# Altium schematic symbol library 常用集成电路.SchLib: 294 symbols (part 4 of 5)
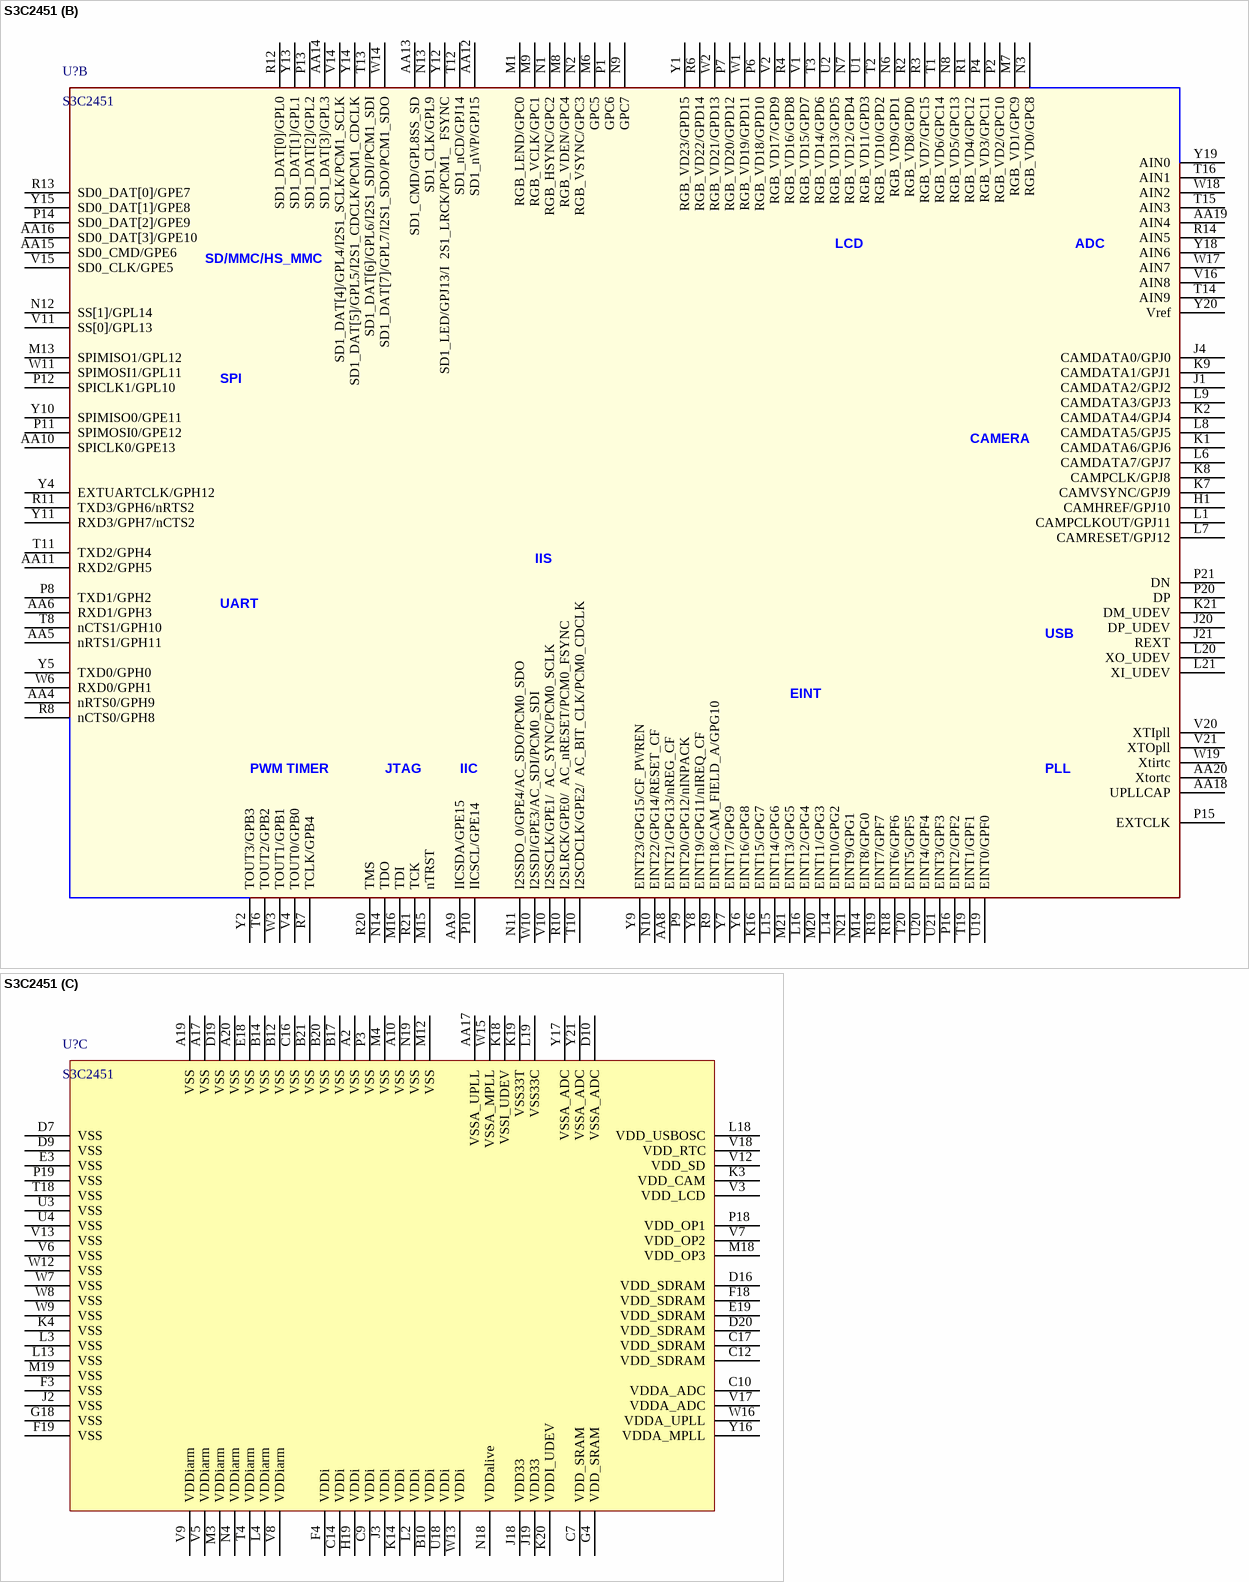
[diagram p41: symbol S3C2451]

## S3C2451
designator U?
footprint BGA65P14X14-380 (BGA, 380-Leads, Body 14.0x14.0mm,  Pitch 0.65mm)
part A pins: A3 nRBE0, A4 RADDR6, A5 RADDR7, A6 RADDR10, A7 RADDR16/GPA1, A8 RADDR22/GPA7, A9 nOE_CF/GPA11, A11 SADDR9, A12 SADDR7, A13 SADDR3, A14 SCKE, A15 nSWE, A16 DQM2/GPA25, A18 SDATA0, AA2 nXBACK/GPB5, AA3 nXDACK0/I2SSDO_1/GPB9, AA7 CLKOUT1/GPH14, B1 RSMCLK/GPA23, B2 FCLE/GPA17, B3 nRCS1/GPA12, B4 RADDR0/GPA0, B5 RADDR3, B6 RADDR9, B7 RADDR14, B8 RADDR20/GPA5, B9 RADDR24/GPA9, B11 SADDR10, B13 nSCAS, B15 nSCS[1], B16 DQS1, B18 SDATA7, B19 SDATA4, C1 nWAIT, C2 RDATA13, C3 nRCS3/GPA14, C4 nRCS0, C5 RADDR2, C6 RADDR8, C8 RADDR18/GPA3, C11 SADDR15, C13 SADDR1, C15 DQM0, C18 SDATA2, C19 SDATA8, C20 SDATA14, C21 SDATA12, D1 nFRE/GPA20, D2 FALE/GPA18, D3 RSMBWAIT/GPM0, D4 nFCE/GPA22, D5 nRWE, D6 RADDR4, D8 RADDR12, D11 SADDR13, D12 SADDR4, D13 nSCLK, D14 SCLK, D15 DQS0, D17 SDATA6, D18 SDATA10, D21 SDATA18/GPK2, E1 FRnB/GPM1, E2 RDATA14, E4 nRCS4/GPA15, E20 SDATA16/GPK0, E21 SDATA20/GPK4, F1 RDATA8, F2 RDATA12, F6 nRCS2/GPA13, F7 nROE, F8 RADDR1, F9 RADDR15, F10 nWE_CF/GPA27, F11 SADDR11, F12 SADDR5, F13 nSCS[0], F14 SDATA3, F15 SDATA9, F16 SDATA11, F20 SDATA22/GPK6, F21 SDATA24/GPK8, G1 RDATA2, G2 RDATA4, G3 RDATA10, G6 nRCS5/GPA16, G7 RSMVAD/GPA24, G8 nRBE1, G9 RADDR13, G10 RADDR23/GPA8, G11 SADDR14, G12 SADDR2, G13 DQM1, G14 SDATA5, G15 SDATA13, G16 SDATA15, G19 SDATA21/GPK5, G20 SDATA26/GPK10, G21 SDATA28/GPK12, H2 RDATA0, H3 RDATA3, H4 RDATA6, H6 RDATA15, H7 nFWE/GPA19, H8 RADDR5, H9 RADDR11, H10 RADDR19/GPA4, H11 RADDR25/RDATA_OEN/GPA10, H12 SADDR8, H13 nSRAS, H14 SDATA1, H15 SDATA17/GPK1, H16 SDATA19/GPK3, H18 SDATA23/GPK7, H20 SDATA29/GPK13, H21 SDATA30/GPK14, J6 RDATA9, J7 RDATA11, J8 RDATA7, J9 RDATA5, J10 RADDR17/GPA2, J11 RADDR21/GPA6, J12 SADDR12, J13 SADDR0, J14 DQM3/GPA26, J15 SDATA25/GPK9, J16 SDATA27/GPK11, K6 RDATA1, K13 SADDR6, K15 SDATA31/GPK15, N15 PWR_EN, N16 NRESET, N20 nRSTOUT, R15 OM[3], R16 OM[1], T7 nXBREQ/RTCK/GPB6, T9 CLKOUT0/GPH13, T21 BATT_FLT, V19 OM[4], W4 nXDREQ1/I2CSCL1/GPB8, W5 nXDREQ0/I2SSDO_2/GPB10, W20 OM[2], W21 OM[0], Y3 nXDACK1/I2CSDA1/GPB7
part B pins: AA4 nRTS0/GPH9, AA5 nRTS1/GPH11, AA6 RXD1/GPH3, AA8 EINT21/GPG13/nREG_CF, AA9 IICSDA/GPE15, AA10 SPICLK0/GPE13, AA11 RXD2/GPH5, AA12 SD1_nWP/GPJ15, AA13 SD1_CMD/GPL8SS_SD, AA14 SD1_DAT[3]/GPL3, AA15 SD0_CMD/GPE6, AA16 SD0_DAT[3]/GPE10, AA18 UPLLCAP, AA19 AIN4, AA20 Xtortc, H1 CAMHREF/GPJ10, J1 CAMDATA2/GPJ2, J4 CAMDATA0/GPJ0, J20 DP_UDEV, J21 REXT, K1 CAMDATA6/GPJ6, K2 CAMDATA4/GPJ4, K7 CAMVSYNC/GPJ9, K8 CAMPCLK/GPJ8, K9 CAMDATA1/GPJ1, K16 EINT15/GPG7, K21 DM_UDEV, L1 CAMPCLKOUT/GPJ11, L6 CAMDATA7/GPJ7, L7 CAMRESET/GPJ12, L8 CAMDATA5/GPJ5, L9 CAMDATA3/GPJ3, L14 EINT10/GPG2, L15 EINT14/GPG6, L16 EINT12/GPG4, L20 XO_UDEV, L21 XI_UDEV, M1 RGB_LEND/GPC0, M6 GPC5, M7 RGB_VD1/GPC9, M8 RGB_VDEN/GPC4, M9 RGB_VCLK/GPC1, M13 SPIMISO1/GPL12, M14 EINT8/GPG0, M15 nTRST, M16 TDI, M20 EINT11/GPG3, M21 EINT13/GPG5, N1 RGB_HSYNC/GPC2, N2 RGB_VSYNC/GPC3, N3 RGB_VD0/GPC8, N6 RGB_VD9/GPD1, N7 RGB_VD12/GPD4, N8 RGB_VD5/GPC13, N9 GPC7, N10 EINT22/GPG14/RESET_CF, N11 I2SSDO_0/GPE4/AC_SDO/PCM0_SDO, N12 SS[1]/GPL14, N13 SD1_CLK/GPL9, N14 TDO, N21 EINT9/GPG1, P1 GPC6, P2 RGB_VD2/GPC10, P4 RGB_VD3/GPC11, P6 RGB_VD18/GPD10, P7 RGB_VD20/GPD12, P8 TXD1/GPH2, P9 EINT20/GPG12/nINPACK, P10 IICSCL/GPE14, P11 SPIMOSI0/GPE12, P12 SPICLK1/GPL10, P13 SD1_DAT[2]/GPL2, P14 SD0_DAT[2]/GPE9, P15 EXTCLK, P16 EINT2/GPF2, P20 DP, P21 DN, R1 RGB_VD4/GPC12, R2 RGB_VD8/GPD0, R3 RGB_VD7/GPC15, R4 RGB_VD16/GPD8, R6 RGB_VD22/GPD14, R7 TCLK/GPB4, R8 nCTS0/GPH8, R9 EINT18/CAM_FIELD_A/GPG10, R10 I2SLRCK/GPE0/  AC_nRESET/PCM0_FSYNC, R11 TXD3/GPH6/nRTS2, R12 SD1_DAT[0]/GPL0, R13 SD0_DAT[0]/GPE7, R14 AIN5, R18 EINT6/GPF6, R19 EINT7/GPF7, R20 TMS, R21 TCK, T1 RGB_VD6/GPC14, T2 RGB_VD10/GPD2, T3 RGB_VD14/GPD6, T6 TOUT2/GPB2, T8 nCTS1/GPH10, T10 I2SCDCLK/GPE2/  AC_BIT_CLK/PCM0_CDCLK, T11 TXD2/GPH4, T12 SD1_nCD/GPJ14, T13 SD1_DAT[6]/GPL6/I2S1_SDI/PCM1_SDI, T14 AIN9, T15 AIN3, T16 AIN1, T19 EINT1/GPF1, T20 EINT5/GPF5, U1 RGB_VD11/GPD3, U2 RGB_VD13/GPD5, U19 EINT0/GPF0, U20 EINT4/GPF4, U21 EINT3/GPF3, V1 RGB_VD15/GPD7, V2 RGB_VD17/GPD9, V4 TOUT0/GPB0, V10 I2SSCLK/GPE1/  AC_SYNC/PCM0_SCLK, V11 SS[0]/GPL13, V14 SD1_DAT[4]/GPL4/I2S1_SCLK/PCM1_SCLK, V15 SD0_CLK/GPE5, V16 AIN8, V20 XTIpll, V21 XTOpll, W1 RGB_VD19/GPD11, W2 RGB_VD21/GPD13, W3 TOUT1/GPB1, W6 RXD0/GPH1, W10 I2SSDI/GPE3/AC_SDI/PCM0_SDI, W11 SPIMOSI1/GPL11, W14 SD1_DAT[7]/GPL7/I2S1_SDO/PCM1_SDO, W17 AIN7, W18 AIN2, W19 Xtirtc, Y1 RGB_VD23/GPD15, Y2 TOUT3/GPB3, Y4 EXTUARTCLK/GPH12, Y5 TXD0/GPH0, Y6 EINT16/GPG8, Y7 EINT17/GPG9, Y8 EINT19/GPG11/nIREQ_CF, Y9 EINT23/GPG15/CF_PWREN, Y10 SPIMISO0/GPE11, Y11 RXD3/GPH7/nCTS2, Y12 SD1_LED/GPJ13/I  2S1_LRCK/PCM1_  FSYNC, Y13 SD1_DAT[1]/GPL1, Y14 SD1_DAT[5]/GPL5/I2S1_CDCLK/PCM1_CDCLK, Y15 SD0_DAT[1]/GPE8, Y18 AIN6, Y19 AIN0, Y20 Vref
part C pins: A2 VSS, A10 VSS, A17 VSS, A19 VSS, A20 VSS, AA17 VSSA_UPLL, B10 VDDi, B12 VSS, B14 VSS, B17 VSS, B20 VSS, B21 VSS, C7 VDD_SRAM, C9 VDDi, C10 VDDA_ADC, C12 VDD_SDRAM, C14 VDDi, C16 VSS, C17 VDD_SDRAM, D7 VSS, D9 VSS, D10 VSSA_ADC, D16 VDD_SDRAM, D19 VSS, D20 VDD_SDRAM, E3 VSS, E18 VSS, E19 VDD_SDRAM, F3 VSS, F4 VDDi, F18 VDD_SDRAM, F19 VSS, G4 VDD_SRAM, G18 VSS, H19 VDDi, J2 VSS, J3 VDDi, J18 VDD33, J19 VDD33, K3 VDD_CAM, K4 VSS, K14 VDDi, K18 VSSI_UDEV, K19 VSS33T, K20 VDDI_UDEV, L2 VDDi, L3 VSS, L4 VDDiarm, L13 VSS, L18 VDD_USBOSC, L19 VSS33C, M3 VDDiarm, M4 VSS, M12 VSS, M18 VDD_OP3, M19 VSS, N4 VDDiarm, N18 VDDalive, N19 VSS, P3 VSS, P18 VDD_OP1, P19 VSS, T4 VDDiarm, T18 VSS, U3 VSS, U4 VSS, U18 VDDi, V3 VDD_LCD, V5 VDDiarm, V6 VSS, V7 VDD_OP2, V8 VDDiarm, V9 VDDiarm, V12 VDD_SD, V13 VSS, V17 VDDA_ADC, V18 VDD_RTC, W7 VSS, W8 VSS, W9 VSS, W12 VSS, W13 VDDi, W15 VSSA_MPLL, W16 VDDA_UPLL, Y16 VDDA_MPLL, Y17 VSSA_ADC, Y21 VSSA_ADC
part A text: EBI BUS (NOR, NAND, ONENAND, CF); DRAM BUS (mSDR, mDDR); SYSTEM; BUS CONTROL
part B text: LCD; ADC; SD/MMC/HS_MMC; SPI; CAMERA; IIS; UART; USB; EINT; PWM TIMER; JTAG; IIC; PLL

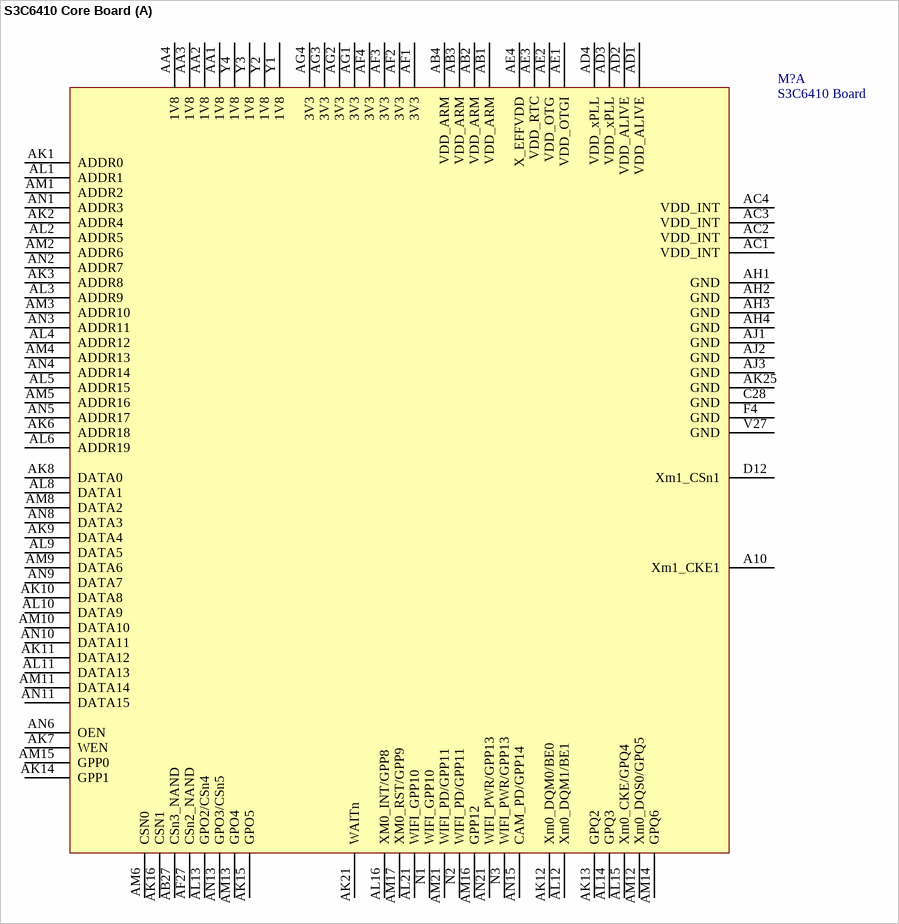
[diagram p25: symbol S3C6410 Core Board]

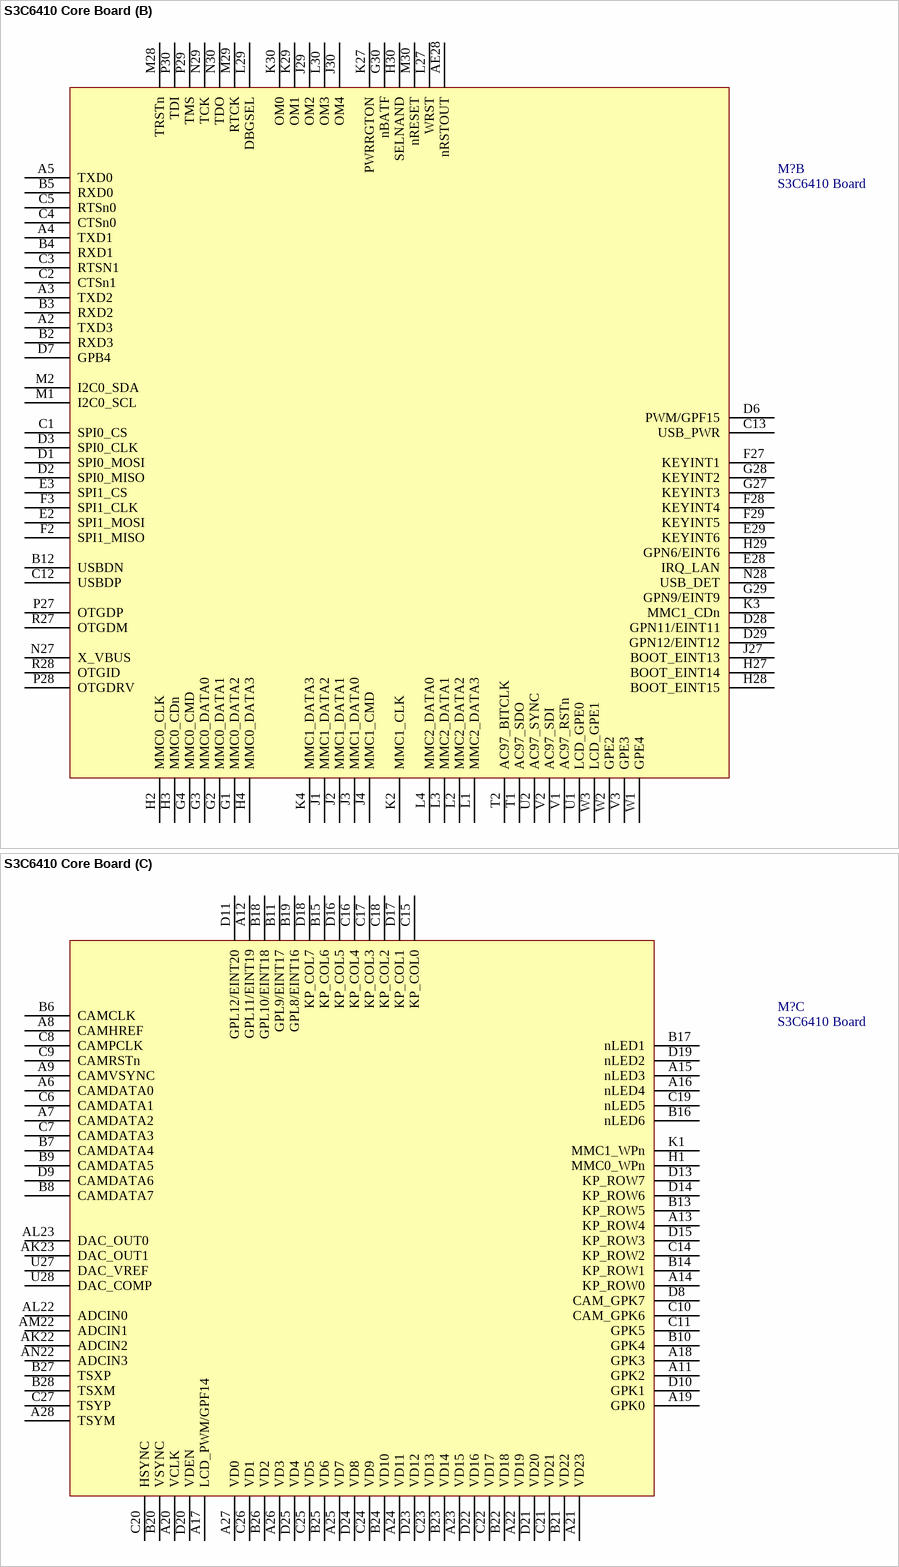
[diagram p26: symbol S3C6410 Core Board]

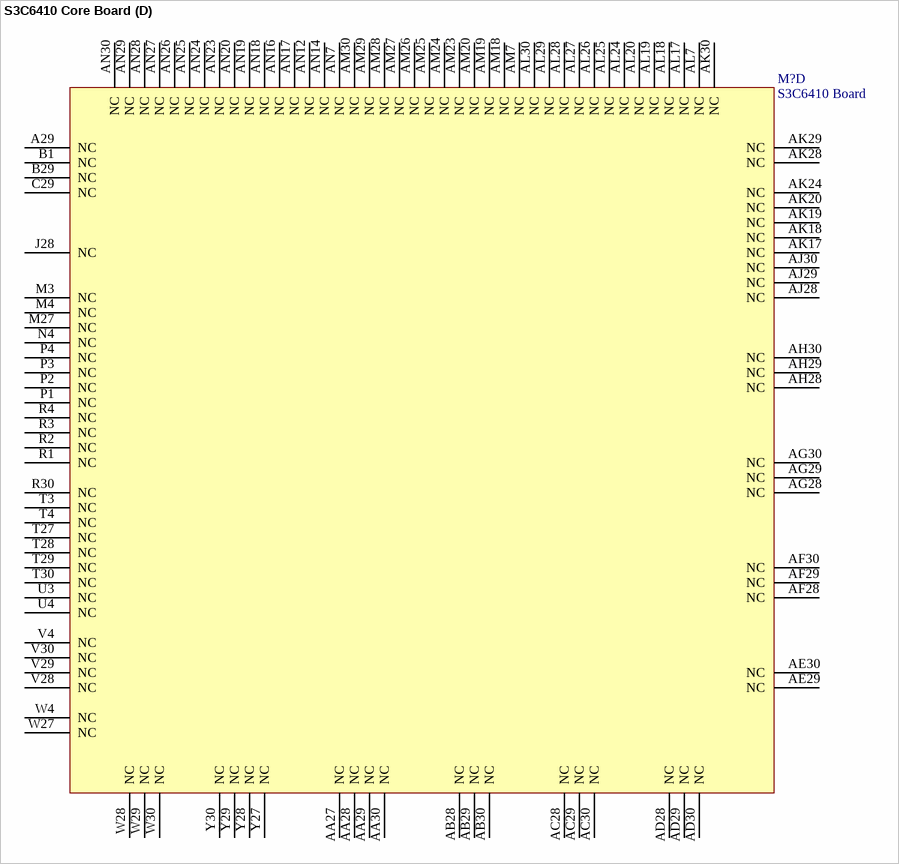
[diagram p27: symbol S3C6410 Core Board]

## S3C6410 Core Board
designator M?, comment S3C6410 Board
S3C6410核心板
footprint S3C6410核心板 (37.5x37.5mm S3C6410核心板 淘宝有售)
part A pins: A10 Xm1_CKE1, AA1 1V8, AA2 1V8, AA3 1V8, AA4 1V8, AB1 VDD_ARM, AB2 VDD_ARM, AB3 VDD_ARM, AB4 VDD_ARM, AB27 CSn3_NAND, AC1 VDD_INT, AC2 VDD_INT, AC3 VDD_INT, AC4 VDD_INT, AD1 VDD_ALIVE, AD2 VDD_ALIVE, AD3 VDD_xPLL, AD4 VDD_xPLL, AE1 VDD_OTGI, AE2 VDD_OTG, AE3 VDD_RTC, AE4 X_EFFVDD, AF1 3V3, AF2 3V3, AF3 3V3, AF4 3V3, AF27 CSn2_NAND, AG1 3V3, AG2 3V3, AG3 3V3, AG4 3V3, AH1 GND, AH2 GND, AH3 GND, AH4 GND, AJ1 GND, AJ2 GND, AJ3 GND, AK1 ADDR0, AK2 ADDR4, AK3 ADDR8, AK6 ADDR18, AK7 WEN, AK8 DATA0, AK9 DATA4, AK10 DATA8, AK11 DATA12, AK12 Xm0_DQM0/BE0, AK13 GPQ2, AK14 GPP1, AK15 GPO5, AK16 CSN1, AK21 WAITn, AK25 GND, AL1 ADDR1, AL2 ADDR5, AL3 ADDR9, AL4 ADDR12, AL5 ADDR15, AL6 ADDR19, AL8 DATA1, AL9 DATA5, AL10 DATA9, AL11 DATA13, AL12 Xm0_DQM1/BE1, AL13 GPO2/CSn4, AL14 GPQ3, AL15 Xm0_CKE/GPQ4, AL16 XM0_INT/GPP8, AL21 WIFI_GPP10, AM1 ADDR2, AM2 ADDR6, AM3 ADDR10, AM4 ADDR13, AM5 ADDR16, AM6 CSN0, AM8 DATA2, AM9 DATA6, AM10 DATA10, AM11 DATA14, AM12 Xm0_DQS0/GPQ5, AM13 GPO4, AM14 GPQ6, AM15 GPP0, AM16 GPP12, AM17 XM0_RST/GPP9, AM21 WIFI_PD/GPP11, AN1 ADDR3, AN2 ADDR7, AN3 ADDR11, AN4 ADDR14, AN5 ADDR17, AN6 OEN, AN8 DATA3, AN9 DATA7, AN10 DATA11, AN11 DATA15, AN13 GPO3/CSn5, AN15 CAM_PD/GPP14, AN21 WIFI_PWR/GPP13, C28 GND, D12 Xm1_CSn1, F4 GND, N1 WIFI_GPP10, N2 WIFI_PD/GPP11, N3 WIFI_PWR/GPP13, V27 GND, Y1 1V8, Y2 1V8, Y3 1V8, Y4 1V8
part B pins: A2 TXD3, A3 TXD2, A4 TXD1, A5 TXD0, AE28 nRSTOUT, B2 RXD3, B3 RXD2, B4 RXD1, B5 RXD0, B12 USBDN, C1 SPI0_CS, C2 CTSn1, C3 RTSN1, C4 CTSn0, C5 RTSn0, C12 USBDP, C13 USB_PWR, D1 SPI0_MOSI, D2 SPI0_MISO, D3 SPI0_CLK, D6 PWM/GPF15, D7 GPB4, D28 GPN11/EINT11, D29 GPN12/EINT12, E2 SPI1_MOSI, E3 SPI1_CS, E28 IRQ_LAN, E29 KEYINT6, F2 SPI1_MISO, F3 SPI1_CLK, F27 KEYINT1, F28 KEYINT4, F29 KEYINT5, G1 MMC0_DATA2, G2 MMC0_DATA1, G3 MMC0_DATA0, G4 MMC0_CMD, G27 KEYINT3, G28 KEYINT2, G29 GPN9/EINT9, G30 nBATF, H2 MMC0_CLK, H3 MMC0_CDn, H4 MMC0_DATA3, H27 BOOT_EINT14, H28 BOOT_EINT15, H29 GPN6/EINT6, H30 SELNAND, J1 MMC1_DATA2, J2 MMC1_DATA1, J3 MMC1_DATA0, J4 MMC1_CMD, J27 BOOT_EINT13, J29 OM2, J30 OM4, K2 MMC1_CLK, K3 MMC1_CDn, K4 MMC1_DATA3, K27 PWRRGTON, K29 OM1, K30 OM0, L1 MMC2_DATA3, L2 MMC2_DATA2, L3 MMC2_DATA1, L4 MMC2_DATA0, L27 WRST, L29 DBGSEL, L30 OM3, M1 I2C0_SCL, M2 I2C0_SDA, M28 TRSTn, M29 RTCK, M30 nRESET, N27 X_VBUS, N28 USB_DET, N29 TCK, N30 TDO, P27 OTGDP, P28 OTGDRV, P29 TMS, P30 TDI, R27 OTGDM, R28 OTGID, T1 AC97_SDO, T2 AC97_BITCLK, U1 LCD_GPE0, U2 AC97_SYNC, V1 AC97_RSTn, V2 AC97_SDI, V3 GPE3, W1 GPE4, W2 GPE2, W3 LCD_GPE1
part C pins: A6 CAMDATA0, A7 CAMDATA2, A8 CAMHREF, A9 CAMVSYNC, A11 GPK2, A12 GPL11/EINT19, A13 KP_ROW4, A14 KP_ROW0, A15 nLED3, A16 nLED4, A17 LCD_PWM/GPF14, A18 GPK3, A19 GPK0, A20 VCLK, A21 VD23, A22 VD19, A23 VD15, A24 VD11, A25 VD7, A26 VD3, A27 VD0, A28 TSYM, AK22 ADCIN2, AK23 DAC_OUT1, AL22 ADCIN0, AL23 DAC_OUT0, AM22 ADCIN1, AN22 ADCIN3, B6 CAMCLK, B7 CAMDATA4, B8 CAMDATA7, B9 CAMDATA5, B10 GPK4, B11 GPL9/EINT17, B13 KP_ROW5, B14 KP_ROW1, B15 KP_COL6, B16 nLED6, B17 nLED1, B18 GPL10/EINT18, B19 GPL8/EINT16, B20 VSYNC, B21 VD22, B22 VD18, B23 VD14, B24 VD10, B25 VD6, B26 VD2, B27 TSXP, B28 TSXM, C6 CAMDATA1, C7 CAMDATA3, C8 CAMPCLK, C9 CAMRSTn, C10 CAM_GPK6, C11 GPK5, C14 KP_ROW2, C15 KP_COL0, C16 KP_COL4, C17 KP_COL3, C18 KP_COL2, C19 nLED5, C20 HSYNC, C21 VD21, C22 VD17, C23 VD13, C24 VD9, C25 VD5, C26 VD1, C27 TSYP, D8 CAM_GPK7, D9 CAMDATA6, D10 GPK1, D11 GPL12/EINT20, D13 KP_ROW7, D14 KP_ROW6, D15 KP_ROW3, D16 KP_COL5, D17 KP_COL1, D18 KP_COL7, D19 nLED2, D20 VDEN, D21 VD20, D22 VD16, D23 VD12, D24 VD8, D25 VD4, H1 MMC0_WPn, K1 MMC1_WPn, U27 DAC_VREF, U28 DAC_COMP
part D pins: A29 NC, AA27 NC, AA28 NC, AA29 NC, AA30 NC, AB28 NC, AB29 NC, AB30 NC, AC28 NC, AC29 NC, AC30 NC, AD28 NC, AD29 NC, AD30 NC, AE29 NC, AE30 NC, AF28 NC, AF29 NC, AF30 NC, AG28 NC, AG29 NC, AG30 NC, AH28 NC, AH29 NC, AH30 NC, AJ28 NC, AJ29 NC, AJ30 NC, AK17 NC, AK18 NC, AK19 NC, AK20 NC, AK24 NC, AK28 NC, AK29 NC, AK30 NC, AL7 NC, AL17 NC, AL18 NC, AL19 NC, AL20 NC, AL24 NC, AL25 NC, AL26 NC, AL27 NC, AL28 NC, AL29 NC, AL30 NC, AM7 NC, AM18 NC, AM19 NC, AM20 NC, AM23 NC, AM24 NC, AM25 NC, AM26 NC, AM27 NC, AM28 NC, AM29 NC, AM30 NC, AN7 NC, AN12 NC, AN14 NC, AN16 NC, AN17 NC, AN18 NC, AN19 NC, AN20 NC, AN23 NC, AN24 NC, AN25 NC, AN26 NC, AN27 NC, AN28 NC, AN29 NC, AN30 NC, B1 NC, B29 NC, C29 NC, J28 NC, M3 NC, M4 NC, M27 NC, N4 NC, P1 NC, P2 NC, P3 NC, P4 NC, R1 NC, R2 NC, R3 NC, R4 NC, R30 NC, T3 NC, T4 NC, T27 NC, T28 NC, T29 NC, T30 NC, U3 NC, U4 NC, V4 NC, V28 NC, V29 NC, V30 NC, W4 NC, W27 NC, W28 NC, W29 NC, W30 NC, Y27 NC, Y28 NC, Y29 NC, Y30 NC

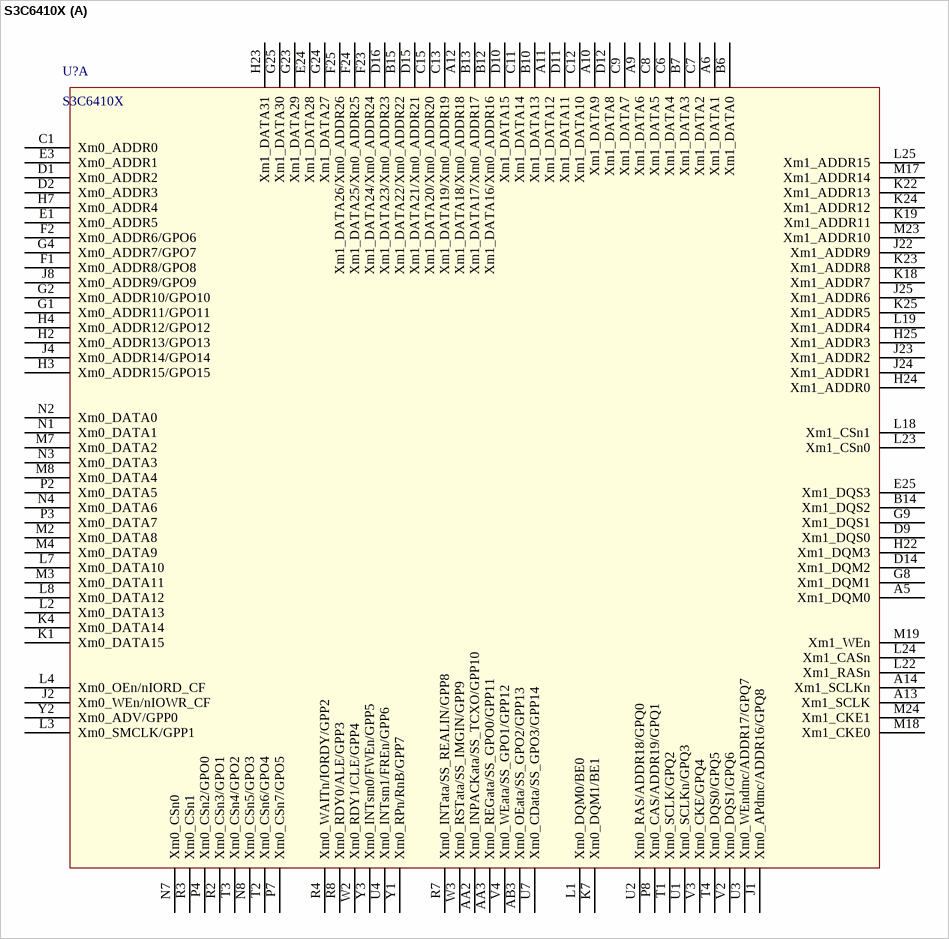
[diagram p28: symbol S3C6410X]

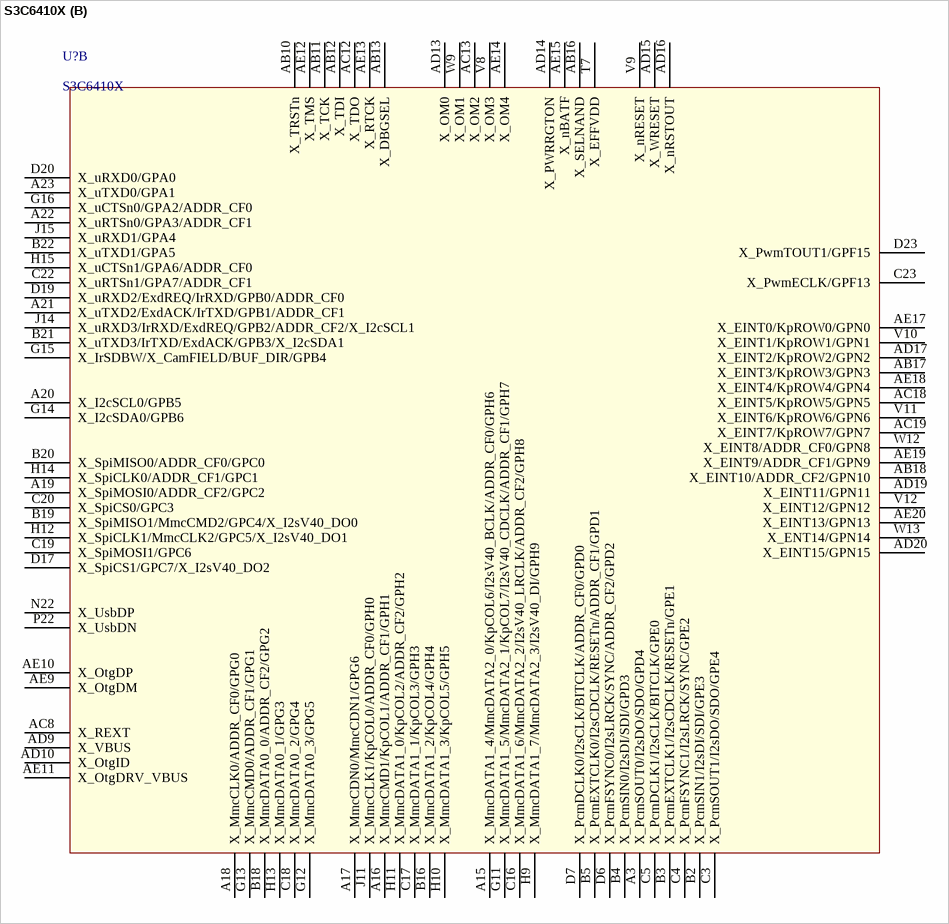
[diagram p29: symbol S3C6410X]

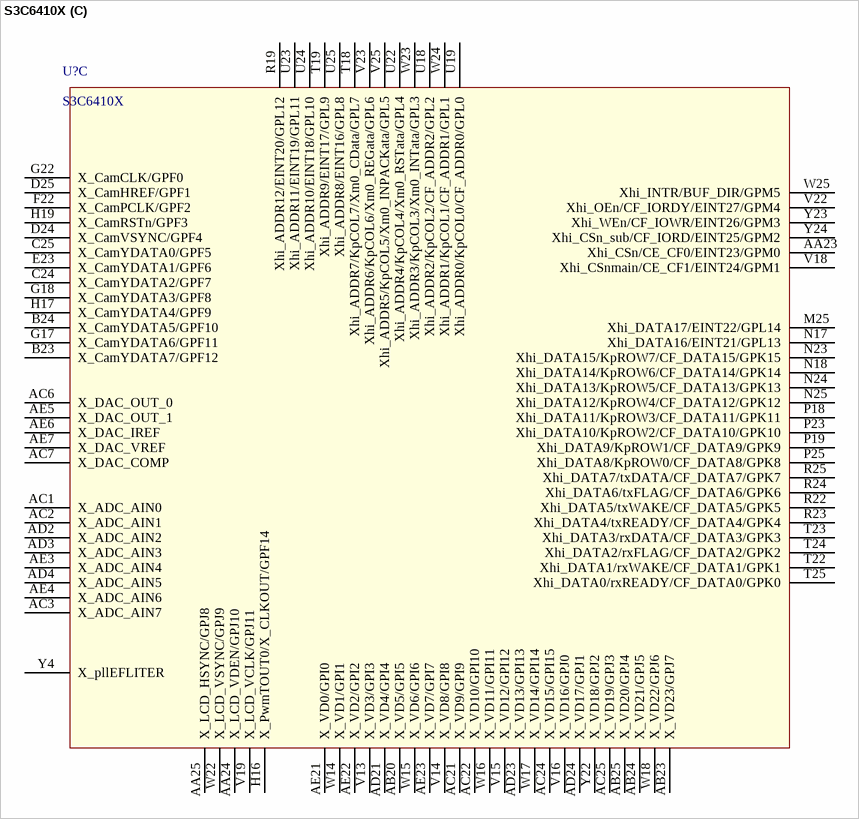
[diagram p30: symbol S3C6410X]

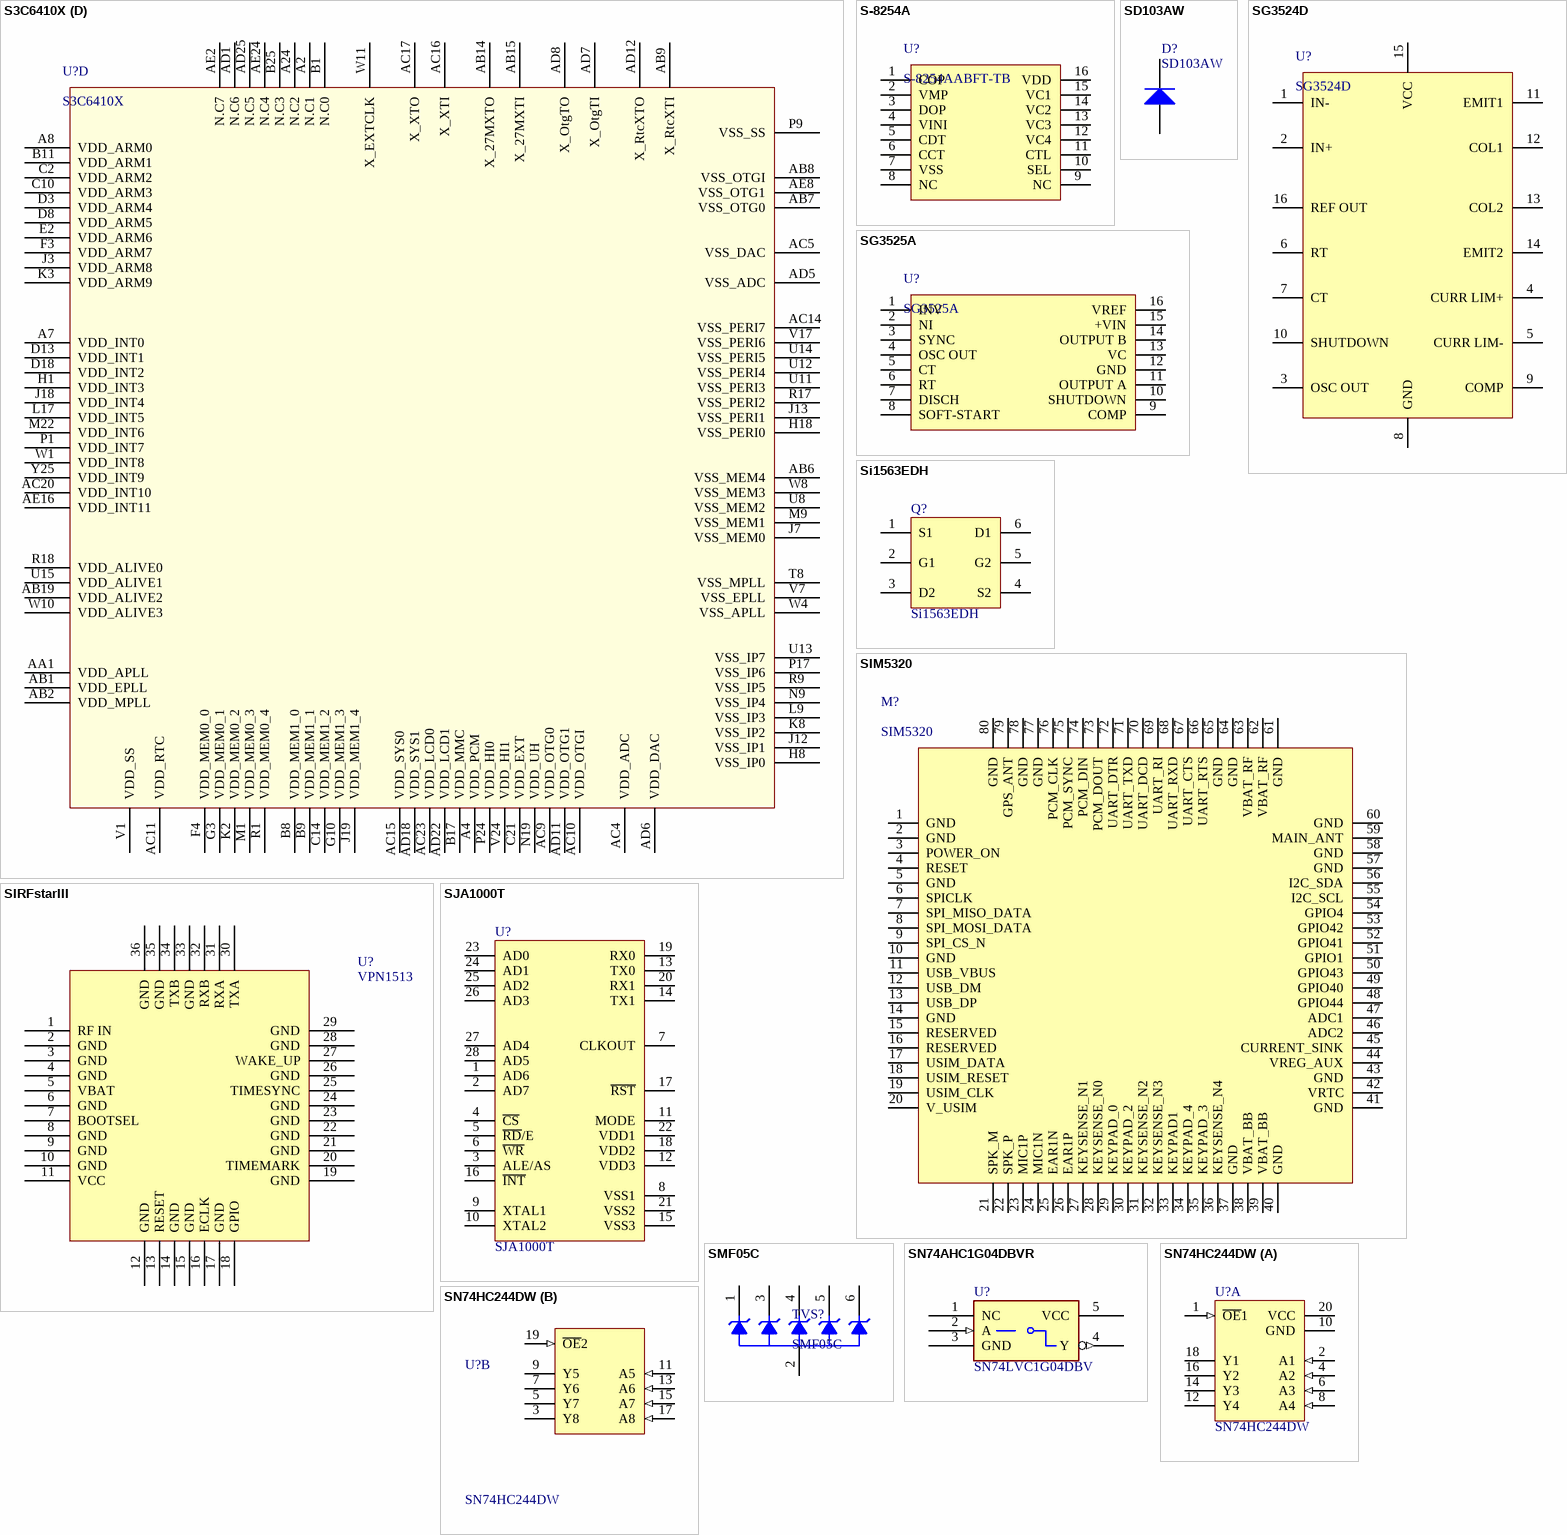
[diagram p31: symbols S3C6410X to SN74HC244DW]

## S3C6410X
designator U?
S3C6410X  RISC Microprocessor  Aug 22, 2008
footprint BGA50P13X13-424
part A pins: A5 Xm1_DQM0, A6 Xm1_DATA1, A9 Xm1_DATA6, A10 Xm1_DATA9, A11 Xm1_DATA12, A12 Xm1_DATA18/Xm0_ADDR18, A13 Xm1_SCLK, A14 Xm1_SCLKn, AA2 Xm0_INPACKata/SS_TCXO/GPP10, AA3 Xm0_REGata/SS_GPO0/GPP11, AB3 Xm0_OEata/SS_GPO2/GPP13, B6 Xm1_DATA0, B7 Xm1_DATA3, B10 Xm1_DATA13, B12 Xm1_DATA16/Xm0_ADDR16, B13 Xm1_DATA17/Xm0_ADDR17, B14 Xm1_DQS2, B15 Xm1_DATA22/Xm0_ADDR22, C1 Xm0_ADDR0, C6 Xm1_DATA4, C7 Xm1_DATA2, C8 Xm1_DATA5, C9 Xm1_DATA7, C11 Xm1_DATA14, C12 Xm1_DATA10, C13 Xm1_DATA19/Xm0_ADDR19, C15 Xm1_DATA20/Xm0_ADDR20, D1 Xm0_ADDR2, D2 Xm0_ADDR3, D9 Xm1_DQS0, D10 Xm1_DATA15, D11 Xm1_DATA11, D12 Xm1_DATA8, D14 Xm1_DQM2, D15 Xm1_DATA21/Xm0_ADDR21, D16 Xm1_DATA23/Xm0_ADDR23, E1 Xm0_ADDR5, E3 Xm0_ADDR1, E24 Xm1_DATA28, E25 Xm1_DQS3, F1 Xm0_ADDR8/GPO8, F2 Xm0_ADDR6/GPO6, F23 Xm1_DATA24/Xm0_ADDR24, F24 Xm1_DATA25/Xm0_ADDR25, F25 Xm1_DATA26/Xm0_ADDR26, G1 Xm0_ADDR11/GPO11, G2 Xm0_ADDR10/GPO10, G4 Xm0_ADDR7/GPO7, G8 Xm1_DQM1, G9 Xm1_DQS1, G23 Xm1_DATA29, G24 Xm1_DATA27, G25 Xm1_DATA30, H2 Xm0_ADDR13/GPO13, H3 Xm0_ADDR15/GPO15, H4 Xm0_ADDR12/GPO12, H7 Xm0_ADDR4, H22 Xm1_DQM3, H23 Xm1_DATA31, H24 Xm1_ADDR0, H25 Xm1_ADDR3, J1 Xm0_APdmc/ADDR16/GPQ8, J2 Xm0_WEn/nIOWR_CF, J4 Xm0_ADDR14/GPO14, J8 Xm0_ADDR9/GPO9, J22 Xm1_ADDR9, J23 Xm1_ADDR2, J24 Xm1_ADDR1, J25 Xm1_ADDR6, K1 Xm0_DATA15, K4 Xm0_DATA14, K7 Xm0_DQM1/BE1, K18 Xm1_ADDR7, K19 Xm1_ADDR11, K22 Xm1_ADDR13, K23 Xm1_ADDR8, K24 Xm1_ADDR12, K25 Xm1_ADDR5, L1 Xm0_DQM0/BE0, L2 Xm0_DATA13, L3 Xm0_SMCLK/GPP1, L4 Xm0_OEn/nIORD_CF, L7 Xm0_DATA10, L8 Xm0_DATA12, L18 Xm1_CSn1, L19 Xm1_ADDR4, L22 Xm1_RASn, L23 Xm1_CSn0, L24 Xm1_CASn, L25 Xm1_ADDR15, M2 Xm0_DATA8, M3 Xm0_DATA11, M4 Xm0_DATA9, M7 Xm0_DATA2, M8 Xm0_DATA4, M17 Xm1_ADDR14, M18 Xm1_CKE0, M19 Xm1_WEn, M23 Xm1_ADDR10, M24 Xm1_CKE1, N1 Xm0_DATA1, N2 Xm0_DATA0, N3 Xm0_DATA3, N4 Xm0_DATA6, N7 Xm0_CSn0, N8 Xm0_CSn5/GPO3, P2 Xm0_DATA5, P3 Xm0_DATA7, P4 Xm0_CSn2/GPO0, P7 Xm0_CSn7/GPO5, P8 Xm0_CAS/ADDR19/GPQ1, R2 Xm0_CSn3/GPO1, R3 Xm0_CSn1, R4 Xm0_WAITn/IORDY/GPP2, R7 Xm0_INTata/SS_REALIN/GPP8, R8 Xm0_RDY0/ALE/GPP3, T1 Xm0_SCLK/GPQ2, T2 Xm0_CSn6/GPO4, T3 Xm0_CSn4/GPO2, T4 Xm0_DQS0/GPQ5, U1 Xm0_SCLKn/GPQ3, U2 Xm0_RAS/ADDR18/GPQ0, U3 Xm0_WEndmc/ADDR17/GPQ7, U4 Xm0_INTsm1/FREn/GPP6, U7 Xm0_CData/SS_GPO3/GPP14, V2 Xm0_DQS1/GPQ6, V3 Xm0_CKE/GPQ4, V4 Xm0_WEata/SS_GPO1/GPP12, W2 Xm0_RDY1/CLE/GPP4, W3 Xm0_RSTata/SS_IMGIN/GPP9, Y1 Xm0_RPn/RnB/GPP7, Y2 Xm0_ADV/GPP0, Y3 Xm0_INTsm0/FWEn/GPP5
part B pins: A3 X_PcmSOUT0/I2sDO/SDO/GPD4, A15 X_MmcDATA1_4/MmcDATA2_0/KpCOL6/I2sV40_BCLK/ADDR_CF0/GPH6, A16 X_MmcCMD1/KpCOL1/ADDR_CF1/GPH1, A17 X_MmcCDN0/MmcCDN1/GPG6, A18 X_MmcCLK0/ADDR_CF0/GPG0, A19 X_SpiMOSI0/ADDR_CF2/GPC2, A20 X_I2cSCL0/GPB5, A21 X_uTXD2/ExdACK/IrTXD/GPB1/ADDR_CF1, A22 X_uRTSn0/GPA3/ADDR_CF1, A23 X_uTXD0/GPA1, AB10 X_TRSTn, AB11 X_TCK, AB12 X_TDI, AB13 X_DBGSEL, AB16 X_SELNAND, AB17 X_EINT3/KpROW3/GPN3, AB18 X_EINT10/ADDR_CF2/GPN10, AC8 X_REXT, AC12 X_TDO, AC13 X_OM2, AC18 X_EINT5/KpROW5/GPN5, AC19 X_EINT7/KpROW7/GPN7, AD9 X_VBUS, AD10 X_OtgID, AD13 X_OM0, AD14 X_PWRRGTON, AD15 X_WRESET, AD16 X_nRSTOUT, AD17 X_EINT2/KpROW2/GPN2, AD19 X_EINT11/GPN11, AD20 X_EINT15/GPN15, AE9 X_OtgDM, AE10 X_OtgDP, AE11 X_OtgDRV_VBUS, AE12 X_TMS, AE13 X_RTCK, AE14 X_OM4, AE15 X_nBATF, AE17 X_EINT0/KpROW0/GPN0, AE18 X_EINT4/KpROW4/GPN4, AE19 X_EINT9/ADDR_CF1/GPN9, AE20 X_EINT13/GPN13, B2 X_PcmSIN1/I2sDI/SDI/GPE3, B3 X_PcmEXTCLK1/I2sCDCLK/RESETn/GPE1, B4 X_PcmSIN0/I2sDI/SDI/GPD3, B5 X_PcmEXTCLK0/I2sCDCLK/RESETn/ADDR_CF1/GPD1, B16 X_MmcDATA1_2/KpCOL4/GPH4, B18 X_MmcDATA0_0/ADDR_CF2/GPG2, B19 X_SpiMISO1/MmcCMD2/GPC4/X_I2sV40_DO0, B20 X_SpiMISO0/ADDR_CF0/GPC0, B21 X_uTXD3/IrTXD/ExdACK/GPB3/X_I2cSDA1, B22 X_uTXD1/GPA5, C3 X_PcmSOUT1/I2sDO/SDO/GPE4, C4 X_PcmFSYNC1/I2sLRCK/SYNC/GPE2, C5 X_PcmDCLK1/I2sCLK/BITCLK/GPE0, C16 X_MmcDATA1_6/MmcDATA2_2/I2sV40_LRCLK/ADDR_CF2/GPH8, C17 X_MmcDATA1_1/KpCOL3/GPH3, C18 X_MmcDATA0_2/GPG4, C19 X_SpiMOSI1/GPC6, C20 X_SpiCS0/GPC3, C22 X_uRTSn1/GPA7/ADDR_CF1, C23 X_PwmECLK/GPF13, D6 X_PcmFSYNC0/I2sLRCK/SYNC/ADDR_CF2/GPD2, D7 X_PcmDCLK0/I2sCLK/BITCLK/ADDR_CF0/GPD0, D17 X_SpiCS1/GPC7/X_I2sV40_DO2, D19 X_uRXD2/ExdREQ/IrRXD/GPB0/ADDR_CF0, D20 X_uRXD0/GPA0, D23 X_PwmTOUT1/GPF15, G11 X_MmcDATA1_5/MmcDATA2_1/KpCOL7/I2sV40_CDCLK/ADDR_CF1/GPH7, G12 X_MmcDATA0_3/GPG5, G13 X_MmcCMD0/ADDR_CF1/GPG1, G14 X_I2cSDA0/GPB6, G15 X_IrSDBW/X_CamFIELD/BUF_DIR/GPB4, G16 X_uCTSn0/GPA2/ADDR_CF0, H9 X_MmcDATA1_7/MmcDATA2_3/I2sV40_DI/GPH9, H10 X_MmcDATA1_3/KpCOL5/GPH5, H11 X_MmcDATA1_0/KpCOL2/ADDR_CF2/GPH2, H12 X_SpiCLK1/MmcCLK2/GPC5/X_I2sV40_DO1, H13 X_MmcDATA0_1/GPG3, H14 X_SpiCLK0/ADDR_CF1/GPC1, H15 X_uCTSn1/GPA6/ADDR_CF0, J11 X_MmcCLK1/KpCOL0/ADDR_CF0/GPH0, J14 X_uRXD3/IrRXD/ExdREQ/GPB2/ADDR_CF2/X_I2cSCL1, J15 X_uRXD1/GPA4, N22 X_UsbDP, P22 X_UsbDN, T7 X_EFFVDD, V8 X_OM3, V9 X_nRESET, V10 X_EINT1/KpROW1/GPN1, V11 X_EINT6/KpROW6/GPN6, V12 X_EINT12/GPN12, W9 X_OM1, W12 X_EINT8/ADDR_CF0/GPN8, W13 X_ENT14/GPN14
part C pins: AA23 Xhi_CSn/CE_CF0/EINT23/GPM0, AA24 X_LCD_VDEN/GPJ10, AA25 X_LCD_HSYNC/GPJ8, AB20 X_VD5/GPI5, AB23 X_VD23/GPJ7, AB24 X_VD21/GPJ5, AB25 X_VD20/GPJ4, AC1 X_ADC_AIN0, AC2 X_ADC_AIN1, AC3 X_ADC_AIN7, AC6 X_DAC_OUT_0, AC7 X_DAC_COMP, AC21 X_VD9/GPI9, AC22 X_VD10/GPI10, AC24 X_VD15/GPI15, AC25 X_VD19/GPJ3, AD2 X_ADC_AIN2, AD3 X_ADC_AIN3, AD4 X_ADC_AIN5, AD21 X_VD4/GPI4, AD23 X_VD13/GPI13, AD24 X_VD17/GPJ1, AE3 X_ADC_AIN4, AE4 X_ADC_AIN6, AE5 X_DAC_OUT_1, AE6 X_DAC_IREF, AE7 X_DAC_VREF, AE21 X_VD0/GPI0, AE22 X_VD2/GPI2, AE23 X_VD7/GPI7, B23 X_CamYDATA7/GPF12, B24 X_CamYDATA5/GPF10, C24 X_CamYDATA2/GPF7, C25 X_CamYDATA0/GPF5, D24 X_CamVSYNC/GPF4, D25 X_CamHREF/GPF1, E23 X_CamYDATA1/GPF6, F22 X_CamPCLK/GPF2, G17 X_CamYDATA6/GPF11, G18 X_CamYDATA3/GPF8, G22 X_CamCLK/GPF0, H16 X_PwmTOUT0/X_CLKOUT/GPF14, H17 X_CamYDATA4/GPF9, H19 X_CamRSTn/GPF3, M25 Xhi_DATA17/EINT22/GPL14, N17 Xhi_DATA16/EINT21/GPL13, N18 Xhi_DATA14/KpROW6/CF_DATA14/GPK14, N23 Xhi_DATA15/KpROW7/CF_DATA15/GPK15, N24 Xhi_DATA13/KpROW5/CF_DATA13/GPK13, N25 Xhi_DATA12/KpROW4/CF_DATA12/GPK12, P18 Xhi_DATA11/KpROW3/CF_DATA11/GPK11, P19 Xhi_DATA9/KpROW1/CF_DATA9/GPK9, P23 Xhi_DATA10/KpROW2/CF_DATA10/GPK10, P25 Xhi_DATA8/KpROW0/CF_DATA8/GPK8, R19 Xhi_ADDR12/EINT20/GPL12, R22 Xhi_DATA5/txWAKE/CF_DATA5/GPK5, R23 Xhi_DATA4/txREADY/CF_DATA4/GPK4, R24 Xhi_DATA6/txFLAG/CF_DATA6/GPK6, R25 Xhi_DATA7/txDATA/CF_DATA7/GPK7, T18 Xhi_ADDR7/KpCOL7/Xm0_CData/GPL7, T19 Xhi_ADDR9/EINT17/GPL9, T22 Xhi_DATA1/rxWAKE/CF_DATA1/GPK1, T23 Xhi_DATA3/rxDATA/CF_DATA3/GPK3, T24 Xhi_DATA2/rxFLAG/CF_DATA2/GPK2, T25 Xhi_DATA0/rxREADY/CF_DATA0/GPK0, U18 Xhi_ADDR2/KpCOL2/CF_ADDR2/GPL2, U19 Xhi_ADDR0/KpCOL0/CF_ADDR0/GPL0, U22 Xhi_ADDR4/KpCOL4/Xm0_RSTata/GPL4, U23 Xhi_ADDR11/EINT19/GPL11, U24 Xhi_ADDR10/EINT18/GPL10, U25 Xhi_ADDR8/EINT16/GPL8, V13 X_VD3/GPI3, V14 X_VD8/GPI8, V15 X_VD12/GPI12, V16 X_VD16/GPJ0, V18 Xhi_CSnmain/CE_CF1/EINT24/GPM1, V19 X_LCD_VCLK/GPJ11, V22 Xhi_OEn/CF_IORDY/EINT27/GPM4, V23 Xhi_ADDR6/KpCOL6/Xm0_REGata/GPL6, V25 Xhi_ADDR5/KpCOL5/Xm0_INPACKata/GPL5, W14 X_VD1/GPI1, W15 X_VD6/GPI6, W16 X_VD11/GPI11, W17 X_VD14/GPI14, W18 X_VD22/GPJ6, W22 X_LCD_VSYNC/GPJ9, W23 Xhi_ADDR3/KpCOL3/Xm0_INTata/GPL3, W24 Xhi_ADDR1/KpCOL1/CF_ADDR1/GPL1, W25 Xhi_INTR/BUF_DIR/GPM5, Y4 X_pllEFLITER, Y22 X_VD18/GPJ2, Y23 Xhi_WEn/CF_IOWR/EINT26/GPM3, Y24 Xhi_CSn_sub/CF_IORD/EINT25/GPM2
part D pins: A2 N.C1, A4 VDD_PCM, A7 VDD_INT0, A8 VDD_ARM0, A24 N.C2, AA1 VDD_APLL, AB1 VDD_EPLL, AB2 VDD_MPLL, AB6 VSS_MEM4, AB7 VSS_OTG0, AB8 VSS_OTGI, AB9 X_RtcXTI, AB14 X_27MXTO, AB15 X_27MXTI, AB19 VDD_ALIVE2, AC4 VDD_ADC, AC5 VSS_DAC, AC9 VDD_OTG0, AC10 VDD_OTGI, AC11 VDD_RTC, AC14 VSS_PERI7, AC15 VDD_SYS0, AC16 X_XTI, AC17 X_XTO, AC20 VDD_INT10, AC23 VDD_LCD0, AD1 N.C6, AD5 VSS_ADC, AD6 VDD_DAC, AD7 X_OtgTI, AD8 X_OtgTO, AD11 VDD_OTG1, AD12 X_RtcXTO, AD18 VDD_SYS1, AD22 VDD_LCD1, AD25 N.C5, AE2 N.C7, AE8 VSS_OTG1, AE16 VDD_INT11, AE24 N.C4, B1 N.C0, B8 VDD_MEM1_0, B9 VDD_MEM1_1, B11 VDD_ARM1, B17 VDD_MMC, B25 N.C3, C2 VDD_ARM2, C10 VDD_ARM3, C14 VDD_MEM1_2, C21 VDD_EXT, D3 VDD_ARM4, D8 VDD_ARM5, D13 VDD_INT1, D18 VDD_INT2, E2 VDD_ARM6, F3 VDD_ARM7, F4 VDD_MEM0_0, G3 VDD_MEM0_1, G10 VDD_MEM1_3, H1 VDD_INT3, H8 VSS_IP0, H18 VSS_PERI0, J3 VDD_ARM8, J7 VSS_MEM0, J12 VSS_IP1, J13 VSS_PERI1, J18 VDD_INT4, J19 VDD_MEM1_4, K2 VDD_MEM0_2, K3 VDD_ARM9, K8 VSS_IP2, L9 VSS_IP3, L17 VDD_INT5, M1 VDD_MEM0_3, M9 VSS_MEM1, M22 VDD_INT6, N9 VSS_IP4, N19 VDD_UH, P1 VDD_INT7, P9 VSS_SS, P17 VSS_IP6, P24 VDD_HI0, R1 VDD_MEM0_4, R9 VSS_IP5, R17 VSS_PERI2, R18 VDD_ALIVE0, T8 VSS_MPLL, U8 VSS_MEM2, U11 VSS_PERI3, U12 VSS_PERI4, U13 VSS_IP7, U14 VSS_PERI5, U15 VDD_ALIVE1, V1 VDD_SS, V7 VSS_EPLL, V17 VSS_PERI6, V24 VDD_HI1, W1 VDD_INT8, W4 VSS_APLL, W8 VSS_MEM3, W10 VDD_ALIVE3, W11 X_EXTCLK, Y25 VDD_INT9

## S-8254A
designator U?, comment S-8254AABFT-TB
多节电池保护
footprint TSOP65P640-16AM (TSOP, 16-Leads, Body 5x4.4mm, Pitch 0.65mm, IPC Low Density)
pins: 1 COP, 2 VMP, 3 DOP, 4 VINI, 5 CDT, 6 CCT, 7 VSS, 8 NC, 9 NC, 10 SEL, 11 CTL, 12 VC4, 13 VC3, 14 VC2, 15 VC1, 16 VDD

## SD103AW
designator D?
SCHOTTKY Diode; Published: 8-Jun-2000; LatestRevisionDate: 17-Jul-2002; LatestRevisionNote: Re-released for DXP Platform.; PackageDocument: Sep-1996; PackageReference: SMC; Publisher: Altium Limited; Code_JEDEC: DO-214-AB
footprint SOD123 (SOD-123; 2 Leads; Body 2.7 x 1.6 mm, (LxW))
simulation model DIODE (Diode)
signal-integrity model Diode
pins: 1 A, 2 K

## SG3524D
designator U?
footprint SO-G16
footprint DIP-16/C7.62 (DIP, 16-Pin, Row Spacing 7.62 mm, Pitch 2.54 mm)
footprint SOIC127P600-16N (SOIC, 16-Leads, Body 9.9x3.9mm, Pitch 1.27mm, IPC Medium Density)
footprint SOIC127P602-16AN (SOIC, 16-Leads, Body 9.9x3.9mm, Pitch 1.27mm, IPC Medium Density)
footprint DIP-16 (DIP; 16 Leads; Row Spacing 7.62 mm; Pitch 2.54 mm)
pins: 1 IN-, 2 IN+, 3 OSC OUT, 4 CURR LIM+, 5 CURR LIM-, 6 RT, 7 CT, 8 GND, 9 COMP, 10 SHUTDOWN, 11 EMIT1, 12 COL1, 13 COL2, 14 EMIT2, 15 VCC, 16 REF OUT

## SG3525A
designator U?
footprint SO-G16
footprint SOIC127P600-16N (SOIC, 16-Leads, Body 9.9x3.9mm, Pitch 1.27mm, IPC Medium Density)
footprint SOIC127P602-16AN (SOIC, 16-Leads, Body 9.9x3.9mm, Pitch 1.27mm, IPC Medium Density)
footprint DIP-16 (DIP; 16 Leads; Row Spacing 7.62 mm; Pitch 2.54 mm)
footprint DIP-16/C7.62 (DIP, 16-Pin, Row Spacing 7.62 mm, Pitch 2.54 mm)
pins: 1 INV, 2 NI, 3 SYNC, 4 OSC OUT, 5 CT, 6 RT, 7 DISCH, 8 SOFT-START, 9 COMP, 10 SHUTDOWN, 11 OUTPUT A, 12 GND, 13 VC, 14 OUTPUT B, 15 +VIN, 16 VREF

## Si1563EDH
designator Q?
Double CMOS
footprint SOT23-6 (SOT-457/SC-74; 6 Leads; Body 3 x 3 mm, inc. leads (LxW max))
pins: 1 S1, 2 G1, 3 D2, 4 S2, 5 G2, 6 D1

## SIM5320
designator M?
3G 模块
footprint SIM5320 (Footprint not found)
pins: 1 GND, 2 GND, 3 POWER_ON, 4 RESET, 5 GND, 6 SPICLK, 7 SPI_MISO_DATA, 8 SPI_MOSI_DATA, 9 SPI_CS_N, 10 GND, 11 USB_VBUS, 12 USB_DM, 13 USB_DP, 14 GND, 15 RESERVED, 16 RESERVED, 17 USIM_DATA, 18 USIM_RESET, 19 USIM_CLK, 20 V_USIM, 21 SPK_M, 22 SPK_P, 23 MIC1P, 24 MIC1N, 25 EAR1N, 26 EAR1P, 27 KEYSENSE_N1, 28 KEYSENSE_N0, 29 KEYPAD_0, 30 KEYPAD_2, 31 KEYSENSE_N2, 32 KEYSENSE_N3, 33 KEYPAD1, 34 KEYPAD_4, 35 KEYPAD_3, 36 KEYSENSE_N4, 37 GND, 38 VBAT_BB, 39 VBAT_BB, 40 GND, 41 GND, 42 VRTC, 43 GND, 44 VREG_AUX, 45 CURRENT_SINK, 46 ADC2, 47 ADC1, 48 GPIO44, 49 GPIO40, 50 GPIO43, 51 GPIO1, 52 GPIO41, 53 GPIO42, 54 GPIO4, 55 I2C_SCL, 56 I2C_SDA, 57 GND, 58 GND, 59 MAIN_ANT, 60 GND, 61 GND, 62 VBAT_RF, 63 VBAT_RF, 64 GND, 65 GND, 66 UART_RTS, 67 UART_CTS, 68 UART_RXD, 69 UART_RI, 70 UART_DCD, 71 UART_TXD, 72 UART_DTR, 73 PCM_DOUT, 74 PCM_DIN, 75 PCM_SYNC, 76 PCM_CLK, 77 GND, 78 GND, 79 GPS_ANT, 80 GND

## SIRFstarIII
designator U?, comment VPN1513
民德GPS模块
footprint GPS_SIRF (SIRFstarIII GPS)
pins: 1 RF IN, 2 GND, 3 GND, 4 GND, 5 VBAT, 6 GND, 7 BOOTSEL, 8 GND, 9 GND, 10 GND, 11 VCC, 12 GND, 13 RESET, 14 GND, 15 GND, 16 ECLK, 17 GND, 18 GPIO, 19 GND, 20 TIMEMARK, 21 GND, 22 GND, 23 GND, 24 GND, 25 TIMESYNC, 26 GND, 27 WAKE_UP, 28 GND, 29 GND, 30 TXA, 31 RXA, 32 RXB, 33 GND, 34 TXB, 35 GND, 36 GND

## SJA1000T
designator U?
footprint SOIC127P1199-28AN (SOIC, 28-Leads, Body 18.4x7.5mm, Pitch 1.27mm, IPC Medium Density)
pins: 1 AD6, 2 AD7, 3 ALE/AS, 4 ~{CS}, 5 ~{RD}/E, 6 ~{WR}, 7 CLKOUT, 8 VSS1, 9 XTAL1, 10 XTAL2, 11 MODE, 12 VDD3, 13 TX0, 14 TX1, 15 VSS3, 16 ~{INT}, 17 ~{RST}, 18 VDD2, 19 RX0, 20 RX1, 21 VSS2, 22 VDD1, 23 AD0, 24 AD1, 25 AD2, 26 AD3, 27 AD4, 28 AD5

## SMF05C
designator TVS?
SIM Card TVS Protect
footprint SC-88 (Footprint not found)
footprint SOT363 (small diode and transistor)
pins: 1 A1 (power), 2 K2 (power), 3 K3/A4 (power), 4 A3 (power), 5 K4 (power), 6 K1/A2 (power)

## SN74AHC1G04DBVR
designator U?, comment SN74LVC1G04DBV
Manufacturer: TI; Fitted: True
footprint SO-G5/P.95 (SOT-23/SC-74A; 5 Leads; Body 3.1 x 3 mm, inc. leads (LxW max))
pins: 1 NC, 2 A (in), 3 GND (power), 4 Y (out), 5 VCC (power)

## SN74HC244DW
designator U?
Octal Buffer and Line Driver with 3-State Outputs; Published: 8-Jun-2000; LatestRevisionDate: 13-Apr-2006; LatestRevisionNote: IPC-7351 Footprint Added.; DatasheetVersion: May-1997; PackageVersion: Mar-2000; PackageReference: DW020; Publisher: Altium Limited; PackageDescription: 20-Pin Plastic Small Outline Integrated Circuit 1.27 mm Pitch; Code_JEDEC: MS-013; Code_IPC: SOIC127P1030-20; ComponentLink1Description: Manufacturer Link; ComponentLink1URL: http://www.ti.com/; ComponentLink2Description: Datasheet; ComponentLink2URL: http://www-s.ti.com/sc/ds/sn74hc244.pdf
footprint DW020_N (SOIC, 20-Leads, Body 12.8x7.5mm, Pitch 1.27mm, IPC Medium Density)
footprint DW020_L (SOIC, 20-Leads, Body 12.8x7.5mm, Pitch 1.27mm, IPC High Density)
footprint DW020_M (SOIC, 20-Leads, Body 12.8x7.5mm, Pitch 1.27mm, IPC Low Density)
3D model DW020 (20-Pin Plastic Small Outline Integrated Circuit 1.27 mm Pitch)
signal-integrity model SN74HC244DW
part A pins: 1 ~{OE}1 (in), 2 A1 (in), 4 A2 (in), 6 A3 (in), 8 A4 (in), 10 GND (power), 12 Y4 (hiz), 14 Y3 (hiz), 16 Y2 (hiz), 18 Y1 (hiz), 20 VCC (power)
part B pins: 3 Y8 (hiz), 5 Y7 (hiz), 7 Y6 (hiz), 9 Y5 (hiz), 11 A5 (in), 13 A6 (in), 15 A7 (in), 17 A8 (in), 19 ~{OE}2 (in)

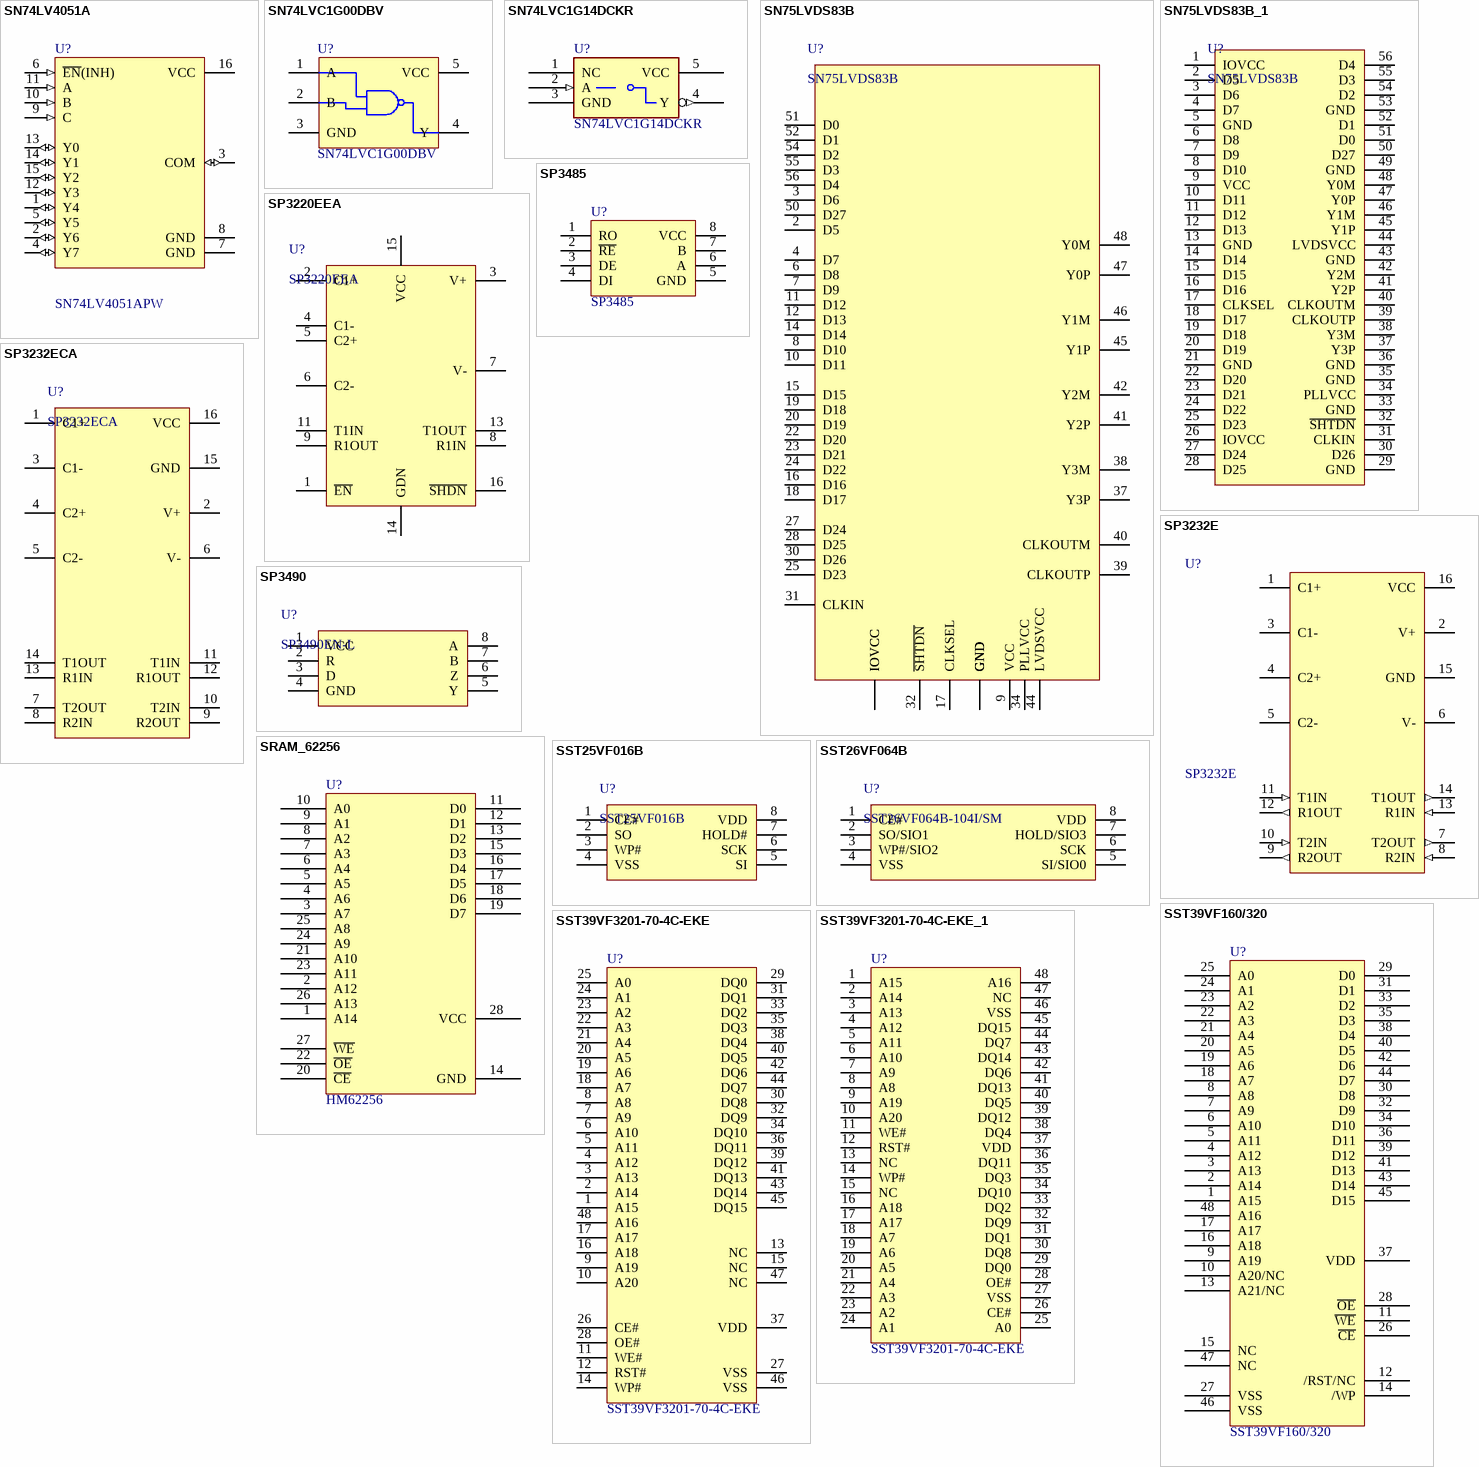
[diagram p32: symbols SN74LV4051A to SST39VF3201-70-4C-EKE_1]

## SN74LV4051A
designator U?, comment SN74LV4051APW
8-Channel Analog Multiplexer; Published: 17-Jul-2002; LatestRevisionDate: 13-Apr-2006; LatestRevisionNote: IPC-7351 Footprint Added.; DatasheetVersion: Apr-1999; PackageVersion: 2000; PackageReference: M16A; Publisher: Altium Limited; PackageDescription: 16-Pin Small Outline Integrated Circuit 1.27 mm Pitch; Code_IPC: SOIC127P600-16; ComponentLink1Description: Manufacturer Link; ComponentLink1URL: http://www.fairchildsemi.com/; ComponentLink2Description: Datasheet; ComponentLink2URL: http://www.fairchildsemi.com/ds/74%2F74VHC4051.pdf
footprint TSOP65P640-16AM (TSOP, 16-Leads, Body 5x4.4mm, Pitch 0.65mm, IPC Low Density)
pins: 1 Y4 (io), 2 Y6 (io), 3 COM (io), 4 Y7 (io), 5 Y5 (io), 6 ~{EN}(INH) (in), 7 GND (power), 8 GND (power), 9 C (in), 10 B (in), 11 A (in), 12 Y3 (io), 13 Y0 (io), 14 Y1 (io), 15 Y2 (io), 16 VCC (power)

## SN74LVC1G00DBV
designator U?
footprint SOT23-5AN (SOT23, 5-Leads, Body 2.9x1.6mm, Pitch 0.95mm, Lead Span 2.8mm, IPC Medium Density)
pins: 1 A, 2 B, 3 GND, 4 Y, 5 VCC

## SN74LVC1G14DCKR
designator U?
footprint SOT353-5AN (SOT353, 5-Leads, Body 2x1.3mm, Pitch 0.65mm, Lead Span 2.1mm, IPC Medium Density)
pins: 1 NC, 2 A (in), 3 GND (power), 4 Y (out), 5 VCC (power)

## SN75LVDS83B
designator U?
RGB-LVDS
footprint TSSOP50P810-56L (TSSOP, 56-Leads, Body 14x6.1mm, Pitch 0.5mm, IPC High Density)
pins: 1 IOVCC, 2 D5, 3 D6, 4 D7, 5 GND, 6 D8, 7 D9, 8 D10, 9 VCC, 10 D11, 11 D12, 12 D13, 13 GND, 14 D14, 15 D15, 16 D16, 17 CLKSEL, 18 D17, 19 D18, 20 D19, 21 GND, 22 D20, 23 D21, 24 D22, 25 D23, 26 IOVCC, 27 D24, 28 D25, 29 GND, 30 D26, 31 CLKIN, 32 ~{SHTDN}, 33 GND, 34 PLLVCC, 35 GND, 36 GND, 37 Y3P, 38 Y3M, 39 CLKOUTP, 40 CLKOUTM, 41 Y2P, 42 Y2M, 43 GND, 44 LVDSVCC, 45 Y1P, 46 Y1M, 47 Y0P, 48 Y0M, 49 GND, 50 D27, 51 D0, 52 D1, 53 GND, 54 D2, 55 D3, 56 D4

## SN75LVDS83B_1
designator U?, comment SN75LVDS83B
RGB-LVDS
footprint TSSOP50P810-56L (TSSOP, 56-Leads, Body 14x6.1mm, Pitch 0.5mm, IPC High Density)
pins: 1 IOVCC, 2 D5, 3 D6, 4 D7, 5 GND, 6 D8, 7 D9, 8 D10, 9 VCC, 10 D11, 11 D12, 12 D13, 13 GND, 14 D14, 15 D15, 16 D16, 17 CLKSEL, 18 D17, 19 D18, 20 D19, 21 GND, 22 D20, 23 D21, 24 D22, 25 D23, 26 IOVCC, 27 D24, 28 D25, 29 GND, 30 D26, 31 CLKIN, 32 ~{SHTDN}, 33 GND, 34 PLLVCC, 35 GND, 36 GND, 37 Y3P, 38 Y3M, 39 CLKOUTP, 40 CLKOUTM, 41 Y2P, 42 Y2M, 43 GND, 44 LVDSVCC, 45 Y1P, 46 Y1M, 47 Y0P, 48 Y0M, 49 GND, 50 D27, 51 D0, 52 D1, 53 GND, 54 D2, 55 D3, 56 D4

## SP3220EEA
designator U?
+3.0V to +5.5V RS-232 Driver/Receiver Pair
footprint SSOP-16 (Footprint not found)
pins: 1 ~{EN}, 2 C1+, 3 V+, 4 C1-, 5 C2+, 6 C2-, 7 V-, 8 R1IN, 9 R1OUT, 11 T1IN, 13 T1OUT, 14 GDN, 15 VCC, 16 ~{SHDN}

## SP3232E
designator U?
+5V Powered, Multi-Channel RS-232 Driver/Receiver; Published: 16-Jan-2001; LatestRevisionDate: 13-Apr-2006; LatestRevisionNote: IPC-7351 Footprint Added.; PackageReference: NSO16; Publisher: Altium Limited; PackageDescription: 16-Pin Small Outline Integrated Circuit 1.27 mm Pitch; Code_JEDEC: MS-012-AC; Code_IPC: SOIC127P600-16; ComponentLink1Description: Manufacturer Link; ComponentLink1URL: http://www.maxim-ic.com/; ComponentLink2Description: Datasheet; ComponentLink2URL: http://pdfserv.maxim-ic.com/en/ds/MAX220-MAX249.pdf
footprint NSO16_N (16-Pin Small Outline Integrated Circuit 1.27 mm Pitch, IPC Medium Density)
pins: 1 C1+, 2 V+ (power), 3 C1-, 4 C2+, 5 C2-, 6 V- (power), 7 T2OUT (out), 8 R2IN (in), 9 R2OUT (out), 10 T2IN (in), 11 T1IN (in), 12 R1OUT (out), 13 R1IN (in), 14 T1OUT (out), 15 GND (power), 16 VCC (power)

## SP3232ECA
designator U?
串口通讯IC
footprint TSOP65P790-16AN (TSOP, 16-Leads, Body 6.33x5.38mm, Pitch 0.65mm, IPC Medium Density)
pins: 1 C1+, 2 V+, 3 C1-, 4 C2+, 5 C2-, 6 V-, 7 T2OUT, 8 R2IN, 9 R2OUT, 10 T2IN, 11 T1IN, 12 R1OUT, 13 R1IN, 14 T1OUT, 15 GND, 16 VCC

## SP3485
designator U?
RS-485 BUS
footprint SOIC127P600-8AN (SOIC, 8-Leads, Body 4.9x3.9mm, Pitch 1.27mm, IPC Medium Density)
pins: 1 RO (power), 2 ~{RE} (power), 3 DE (power), 4 DI (power), 5 GND (power), 6 A (power), 7 B (power), 8 VCC (power)

## SP3490
designator U?, comment SP3490EN-L
3.3V 全双工RS485/RS422
footprint SOIC127P600-8AN (SOIC, 8-Leads, Body 4.9x3.9mm, Pitch 1.27mm, IPC Medium Density)
pins: 1 VCC, 2 R, 3 D, 4 GND, 5 Y, 6 Z, 7 B, 8 A

## SRAM_62256
designator U?, comment HM62256
32Kb RAM
footprint JI28 (Footprint not found)
pins: 1 A14, 2 A12, 3 A7, 4 A6, 5 A5, 6 A4, 7 A3, 8 A2, 9 A1, 10 A0, 11 D0, 12 D1, 13 D2, 14 GND, 15 D3, 16 D4, 17 D5, 18 D6, 19 D7, 20 ~{CE}, 21 A10, 22 ~{OE}, 23 A11, 24 A9, 25 A8, 26 A13, 27 ~{WE}, 28 VCC

## SST25VF016B
designator U?
16 Mbit SPI Serial Flash
footprint SOP127P780-8N (SOP, 8-Leads, Body 5.3x5.3mm, Pitch 1.27mm, IPC Medium Density)
pins: 1 CE#, 2 SO, 3 WP#, 4 VSS, 5 SI, 6 SCK, 7 HOLD#, 8 VDD

## SST26VF064B
designator U?, comment SST26VF064B-104I/SM
64 Mbit 104MHz SPI Serial Flash
footprint SOP127P780-8N (SOP, 8-Leads, Body 5.3x5.3mm, Pitch 1.27mm, IPC Medium Density)
pins: 1 CE#, 2 SO/SIO1, 3 WP#/SIO2, 4 VSS, 5 SI/SIO0, 6 SCK, 7 HOLD/SIO3, 8 VDD

## SST39VF160/320
designator U?
footprint TSOP48
pins: 1 A15, 2 A14, 3 A13, 4 A12, 5 A11, 6 A10, 7 A9, 8 A8, 9 A19, 10 A20/NC, 11 ~{WE}, 12 /RST/NC, 13 A21/NC, 14 /WP, 15 NC, 16 A18, 17 A17, 18 A7, 19 A6, 20 A5, 21 A4, 22 A3, 23 A2, 24 A1, 25 A0, 26 ~{CE}, 27 VSS, 28 ~{OE}, 29 D0, 30 D8, 31 D1, 32 D9, 33 D2, 34 D10, 35 D3, 36 D11, 37 VDD, 38 D4, 39 D12, 40 D5, 41 D13, 42 D6, 43 D14, 44 D7, 45 D15, 46 VSS, 47 NC, 48 A16

## SST39VF3201-70-4C-EKE
designator U?
footprint TSSOP50P2000-48AM (TSSOP, 48-Leads, Body 12x18.4mm, Pitch 0.5mm, IPC Low Density)
pins: 1 A15, 2 A14, 3 A13, 4 A12, 5 A11, 6 A10, 7 A9, 8 A8, 9 A19, 10 A20, 11 WE#, 12 RST#, 13 NC, 14 WP#, 15 NC, 16 A18, 17 A17, 18 A7, 19 A6, 20 A5, 21 A4, 22 A3, 23 A2, 24 A1, 25 A0, 26 CE#, 27 VSS, 28 OE#, 29 DQ0, 30 DQ8, 31 DQ1, 32 DQ9, 33 DQ2, 34 DQ10, 35 DQ3, 36 DQ11, 37 VDD, 38 DQ4, 39 DQ12, 40 DQ5, 41 DQ13, 42 DQ6, 43 DQ14, 44 DQ7, 45 DQ15, 46 VSS, 47 NC, 48 A16

## SST39VF3201-70-4C-EKE_1
designator U?, comment SST39VF3201-70-4C-EKE
footprint TSSOP50P2000-48AM (TSSOP, 48-Leads, Body 12x18.4mm, Pitch 0.5mm, IPC Low Density)
pins: 1 A15, 2 A14, 3 A13, 4 A12, 5 A11, 6 A10, 7 A9, 8 A8, 9 A19, 10 A20, 11 WE#, 12 RST#, 13 NC, 14 WP#, 15 NC, 16 A18, 17 A17, 18 A7, 19 A6, 20 A5, 21 A4, 22 A3, 23 A2, 24 A1, 25 A0, 26 CE#, 27 VSS, 28 OE#, 29 DQ0, 30 DQ8, 31 DQ1, 32 DQ9, 33 DQ2, 34 DQ10, 35 DQ3, 36 DQ11, 37 VDD, 38 DQ4, 39 DQ12, 40 DQ5, 41 DQ13, 42 DQ6, 43 DQ14, 44 DQ7, 45 DQ15, 46 VSS, 47 NC, 48 A16

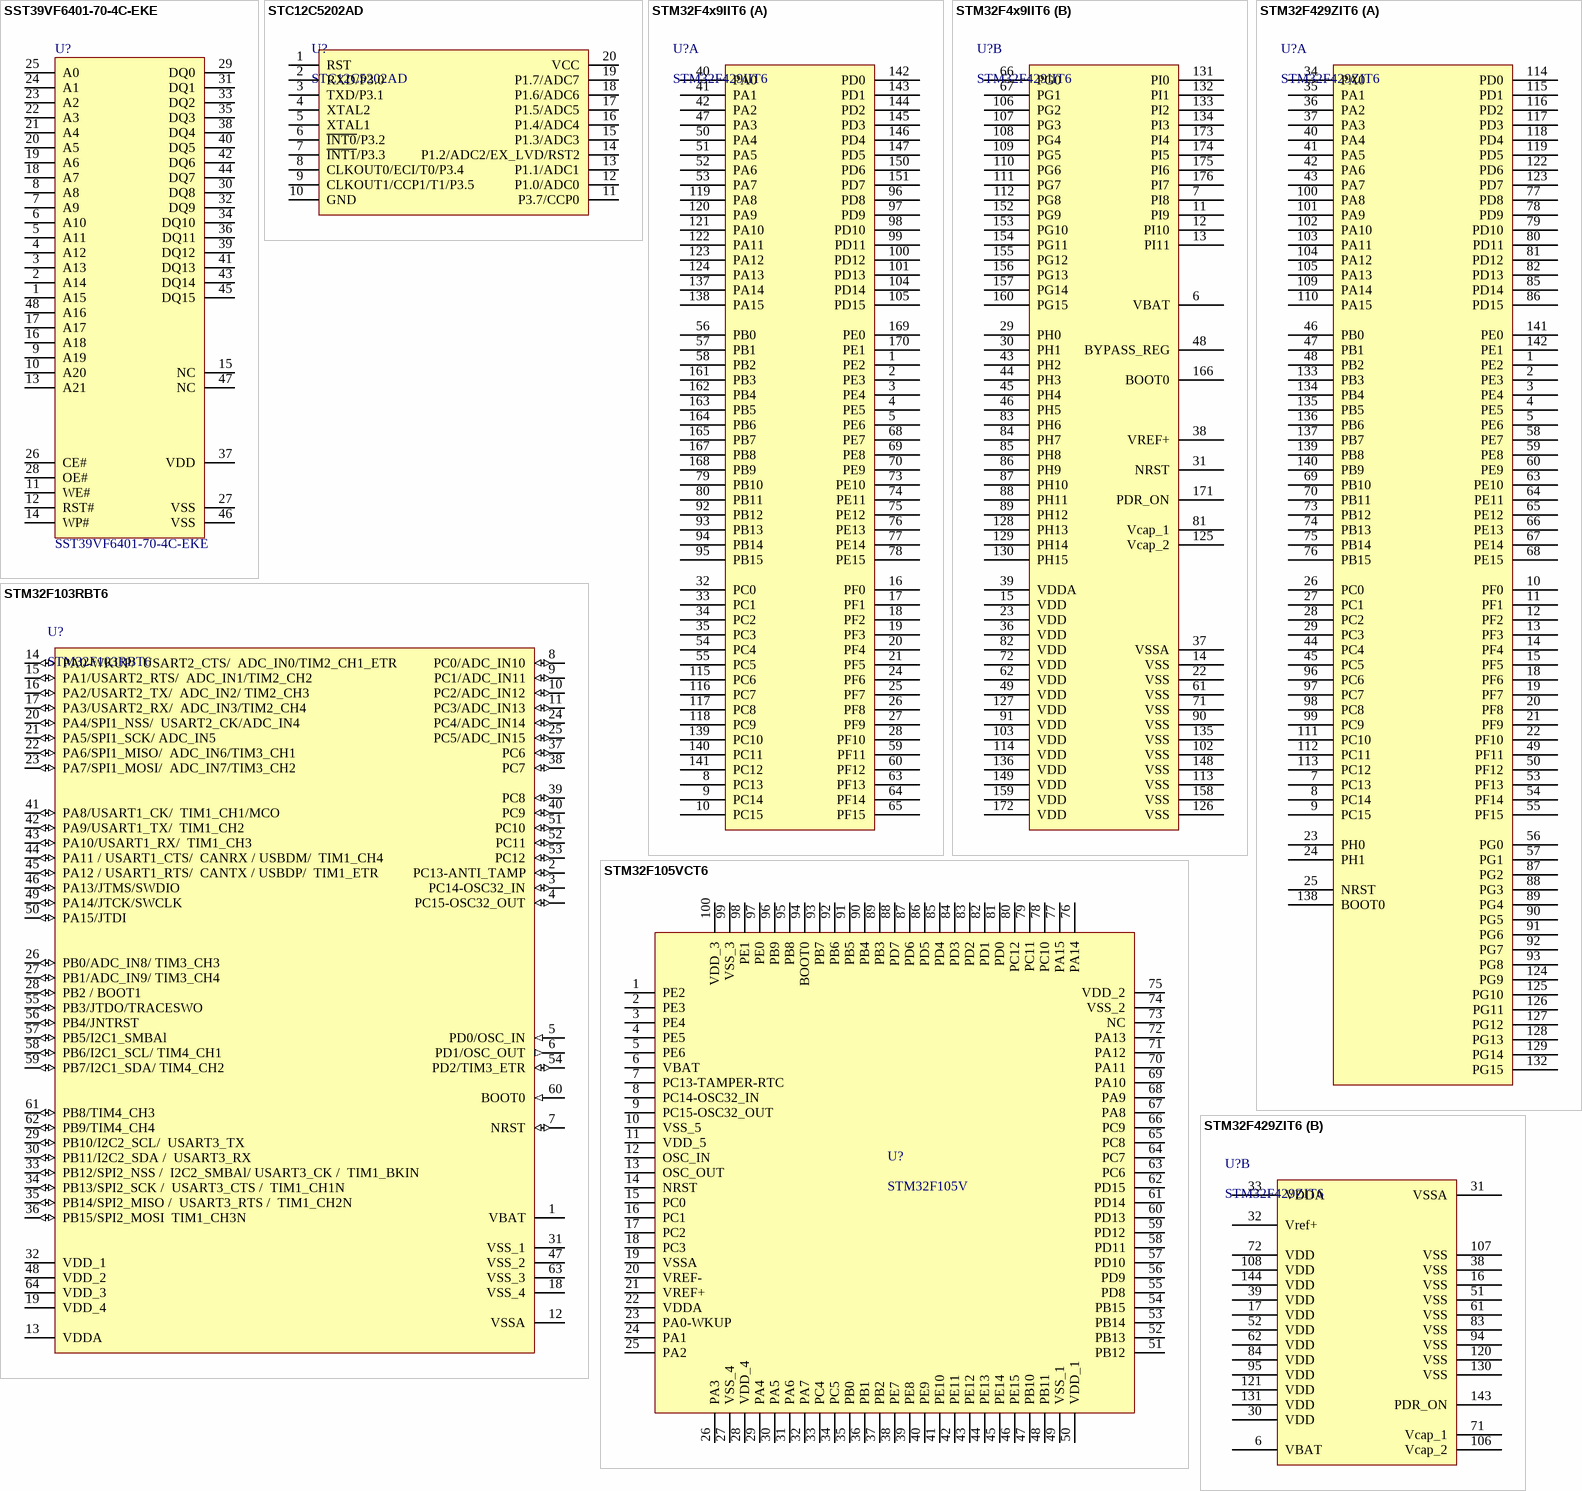
[diagram p33: symbols SST39VF6401-70-4C-EKE to STM32F429ZIT6]

## SST39VF6401-70-4C-EKE
designator U?
footprint TSSOP50P2000-48AM (TSSOP, 48-Leads, Body 12x18.4mm, Pitch 0.5mm, IPC Low Density)
pins: 1 A15, 2 A14, 3 A13, 4 A12, 5 A11, 6 A10, 7 A9, 8 A8, 9 A19, 10 A20, 11 WE#, 12 RST#, 13 A21, 14 WP#, 15 NC, 16 A18, 17 A17, 18 A7, 19 A6, 20 A5, 21 A4, 22 A3, 23 A2, 24 A1, 25 A0, 26 CE#, 27 VSS, 28 OE#, 29 DQ0, 30 DQ8, 31 DQ1, 32 DQ9, 33 DQ2, 34 DQ10, 35 DQ3, 36 DQ11, 37 VDD, 38 DQ4, 39 DQ12, 40 DQ5, 41 DQ13, 42 DQ6, 43 DQ14, 44 DQ7, 45 DQ15, 46 VSS, 47 NC, 48 A16

## STC12C5202AD
designator U?
STC 带ADC的8位单片机
footprint SOIC127P1030-20M (Footprint not found)
footprint SOIC127P1030-20AM (SOIC, 20-Leads, Body 12.8x7.5mm, Pitch 1.27mm, IPC Low Density)
pins: 1 RST, 2 RXD/P3.0, 3 TXD/P3.1, 4 XTAL2, 5 XTAL1, 6 ~{INT0}/P3.2, 7 ~{INT1}/P3.3, 8 CLKOUT0/ECI/T0/P3.4, 9 CLKOUT1/CCP1/T1/P3.5, 10 GND, 11 P3.7/CCP0, 12 P1.0/ADC0, 13 P1.1/ADC1, 14 P1.2/ADC2/EX_LVD/RST2, 15 P1.3/ADC3, 16 P1.4/ADC4, 17 P1.5/ADC5, 18 P1.6/ADC6, 19 P1.7/ADC7, 20 VCC

## STM32F4x9IIT6
designator U?, comment STM32F429IIT6
STM32F4单片机
footprint TSQFP50P2600X2600-176L (Thin QFP, 176-Leads, Body 24x24mm, Pitch 0.5mm, IPC High Density)
part A pins: 1 PE2, 2 PE3, 3 PE4, 4 PE5, 5 PE6, 8 PC13, 9 PC14, 10 PC15, 16 PF0, 17 PF1, 18 PF2, 19 PF3, 20 PF4, 21 PF5, 24 PF6, 25 PF7, 26 PF8, 27 PF9, 28 PF10, 32 PC0, 33 PC1, 34 PC2, 35 PC3, 40 PA0, 41 PA1, 42 PA2, 47 PA3, 50 PA4, 51 PA5, 52 PA6, 53 PA7, 54 PC4, 55 PC5, 56 PB0, 57 PB1, 58 PB2, 59 PF11, 60 PF12, 63 PF13, 64 PF14, 65 PF15, 68 PE7, 69 PE8, 70 PE9, 73 PE10, 74 PE11, 75 PE12, 76 PE13, 77 PE14, 78 PE15, 79 PB10, 80 PB11, 92 PB12, 93 PB13, 94 PB14, 95 PB15, 96 PD8, 97 PD9, 98 PD10, 99 PD11, 100 PD12, 101 PD13, 104 PD14, 105 PD15, 115 PC6, 116 PC7, 117 PC8, 118 PC9, 119 PA8, 120 PA9, 121 PA10, 122 PA11, 123 PA12, 124 PA13, 137 PA14, 138 PA15, 139 PC10, 140 PC11, 141 PC12, 142 PD0, 143 PD1, 144 PD2, 145 PD3, 146 PD4, 147 PD5, 150 PD6, 151 PD7, 161 PB3, 162 PB4, 163 PB5, 164 PB6, 165 PB7, 167 PB8, 168 PB9, 169 PE0, 170 PE1
part B pins: 6 VBAT, 7 PI8, 11 PI9, 12 PI10, 13 PI11, 14 VSS, 15 VDD, 22 VSS, 23 VDD, 29 PH0, 30 PH1, 31 NRST, 36 VDD, 37 VSSA, 38 VREF+, 39 VDDA, 43 PH2, 44 PH3, 45 PH4, 46 PH5, 48 BYPASS_REG, 49 VDD, 61 VSS, 62 VDD, 66 PG0, 67 PG1, 71 VSS, 72 VDD, 81 Vcap_1, 82 VDD, 83 PH6, 84 PH7, 85 PH8, 86 PH9, 87 PH10, 88 PH11, 89 PH12, 90 VSS, 91 VDD, 102 VSS, 103 VDD, 106 PG2, 107 PG3, 108 PG4, 109 PG5, 110 PG6, 111 PG7, 112 PG8, 113 VSS, 114 VDD, 125 Vcap_2, 126 VSS, 127 VDD, 128 PH13, 129 PH14, 130 PH15, 131 PI0, 132 PI1, 133 PI2, 134 PI3, 135 VSS, 136 VDD, 148 VSS, 149 VDD, 152 PG9, 153 PG10, 154 PG11, 155 PG12, 156 PG13, 157 PG14, 158 VSS, 159 VDD, 160 PG15, 166 BOOT0, 171 PDR_ON, 172 VDD, 173 PI4, 174 PI5, 175 PI6, 176 PI7

## STM32F103RBT6
designator U?
footprint LQFP64_L (Thin QFP, 64-Leads, Body 10x10mm, Pitch 0.5mm, IPC High Density)
footprint TSQFP50P1200X1200-64L (Thin QFP, 64-Leads, Body 10x10mm, Pitch 0.5mm, IPC High Density)
footprint SQFP50P1200X1200-64L (Shrink QFP, 64-Leads, Body 10x10mm, Pitch 0.5mm, IPC High Density)
pins: 1 VBAT (power), 2 PC13-ANTI_TAMP (io), 3 PC14-OSC32_IN (io), 4 PC15-OSC32_OUT (io), 5 PD0/OSC_IN (in), 6 PD1/OSC_OUT (out), 7 NRST (io), 8 PC0/ADC_IN10 (io), 9 PC1/ADC_IN11 (io), 10 PC2/ADC_IN12 (io), 11 PC3/ADC_IN13 (io), 12 VSSA (power), 13 VDDA (power), 14 PA0-WKUP/  USART2_CTS/  ADC_IN0/TIM2_CH1_ETR (io), 15 PA1/USART2_RTS/  ADC_IN1/TIM2_CH2 (io), 16 PA2/USART2_TX/  ADC_IN2/ TIM2_CH3 (io), 17 PA3/USART2_RX/  ADC_IN3/TIM2_CH4 (io), 18 VSS_4 (power), 19 VDD_4 (power), 20 PA4/SPI1_NSS/  USART2_CK/ADC_IN4 (io), 21 PA5/SPI1_SCK/ ADC_IN5 (io), 22 PA6/SPI1_MISO/  ADC_IN6/TIM3_CH1 (io), 23 PA7/SPI1_MOSI/  ADC_IN7/TIM3_CH2 (io), 24 PC4/ADC_IN14 (io), 25 PC5/ADC_IN15 (io), 26 PB0/ADC_IN8/ TIM3_CH3 (io), 27 PB1/ADC_IN9/ TIM3_CH4 (io), 28 PB2 / BOOT1 (io), 29 PB10/I2C2_SCL/  USART3_TX (io), 30 PB11/I2C2_SDA /  USART3_RX (io), 31 VSS_1 (power), 32 VDD_1 (power), 33 PB12/SPI2_NSS /  I2C2_SMBAl/ USART3_CK /  TIM1_BKIN (io), 34 PB13/SPI2_SCK /  USART3_CTS /  TIM1_CH1N (io), 35 PB14/SPI2_MISO /  USART3_RTS /  TIM1_CH2N (io), 36 PB15/SPI2_MOSI  TIM1_CH3N (io), 37 PC6 (io), 38 PC7 (io), 39 PC8 (io), 40 PC9 (io), 41 PA8/USART1_CK/  TIM1_CH1/MCO (io), 42 PA9/USART1_TX/  TIM1_CH2 (io), 43 PA10/USART1_RX/  TIM1_CH3 (io), 44 PA11 / USART1_CTS/  CANRX / USBDM/  TIM1_CH4 (io), 45 PA12 / USART1_RTS/  CANTX / USBDP/  TIM1_ETR (io), 46 PA13/JTMS/SWDIO (io), 47 VSS_2 (power), 48 VDD_2 (power), 49 PA14/JTCK/SWCLK (io), 50 PA15/JTDI (io), 51 PC10 (io), 52 PC11 (io), 53 PC12 (io), 54 PD2/TIM3_ETR (io), 55 PB3/JTDO/TRACESWO (io), 56 PB4/JNTRST (io), 57 PB5/I2C1_SMBAl (io), 58 PB6/I2C1_SCL/ TIM4_CH1 (io), 59 PB7/I2C1_SDA/ TIM4_CH2 (io), 60 BOOT0 (in), 61 PB8/TIM4_CH3 (io), 62 PB9/TIM4_CH4 (io), 63 VSS_3 (power), 64 VDD_3 (power)

## STM32F105VCT6
designator U?, comment STM32F105V
ARM-based 32-bit MCU with 64/256 KB Flash, USB  OTG, Ethernet, 10 timers, 2 CANs, 2 ADCs, 14 communication interfaces
footprint TSQFP50P1600X1600-100L (Thin QFP, 100-Leads, Body 14x14mm, Pitch 0.5mm, IPC High Density)
pins: 1 PE2, 2 PE3, 3 PE4, 4 PE5, 5 PE6, 6 VBAT, 7 PC13-TAMPER-RTC, 8 PC14-OSC32_IN, 9 PC15-OSC32_OUT, 10 VSS_5, 11 VDD_5, 12 OSC_IN, 13 OSC_OUT, 14 NRST, 15 PC0, 16 PC1, 17 PC2, 18 PC3, 19 VSSA, 20 VREF-, 21 VREF+, 22 VDDA, 23 PA0-WKUP, 24 PA1, 25 PA2, 26 PA3, 27 VSS_4, 28 VDD_4, 29 PA4, 30 PA5, 31 PA6, 32 PA7, 33 PC4, 34 PC5, 35 PB0, 36 PB1, 37 PB2, 38 PE7, 39 PE8, 40 PE9, 41 PE10, 42 PE11, 43 PE12, 44 PE13, 45 PE14, 46 PE15, 47 PB10, 48 PB11, 49 VSS_1, 50 VDD_1, 51 PB12, 52 PB13, 53 PB14, 54 PB15, 55 PD8, 56 PD9, 57 PD10, 58 PD11, 59 PD12, 60 PD13, 61 PD14, 62 PD15, 63 PC6, 64 PC7, 65 PC8, 66 PC9, 67 PA8, 68 PA9, 69 PA10, 70 PA11, 71 PA12, 72 PA13, 73 NC, 74 VSS_2, 75 VDD_2, 76 PA14, 77 PA15, 78 PC10, 79 PC11, 80 PC12, 81 PD0, 82 PD1, 83 PD2, 84 PD3, 85 PD4, 86 PD5, 87 PD6, 88 PD7, 89 PB3, 90 PB4, 91 PB5, 92 PB6, 93 PB7, 94 BOOT0, 95 PB8, 96 PB9, 97 PE0, 98 PE1, 99 VSS_3, 100 VDD_3

## STM32F429ZIT6
designator U?
STM32F4单片机
footprint TSQFP50P2200X2200-144N (Thin QFP, 144-Leads, Body 20x20mm, Pitch 0.5mm, IPC Medium Density)
part A pins: 1 PE2, 2 PE3, 3 PE4, 4 PE5, 5 PE6, 7 PC13, 8 PC14, 9 PC15, 10 PF0, 11 PF1, 12 PF2, 13 PF3, 14 PF4, 15 PF5, 18 PF6, 19 PF7, 20 PF8, 21 PF9, 22 PF10, 23 PH0, 24 PH1, 25 NRST, 26 PC0, 27 PC1, 28 PC2, 29 PC3, 34 PA0, 35 PA1, 36 PA2, 37 PA3, 40 PA4, 41 PA5, 42 PA6, 43 PA7, 44 PC4, 45 PC5, 46 PB0, 47 PB1, 48 PB2, 49 PF11, 50 PF12, 53 PF13, 54 PF14, 55 PF15, 56 PG0, 57 PG1, 58 PE7, 59 PE8, 60 PE9, 63 PE10, 64 PE11, 65 PE12, 66 PE13, 67 PE14, 68 PE15, 69 PB10, 70 PB11, 73 PB12, 74 PB13, 75 PB14, 76 PB15, 77 PD8, 78 PD9, 79 PD10, 80 PD11, 81 PD12, 82 PD13, 85 PD14, 86 PD15, 87 PG2, 88 PG3, 89 PG4, 90 PG5, 91 PG6, 92 PG7, 93 PG8, 96 PC6, 97 PC7, 98 PC8, 99 PC9, 100 PA8, 101 PA9, 102 PA10, 103 PA11, 104 PA12, 105 PA13, 109 PA14, 110 PA15, 111 PC10, 112 PC11, 113 PC12, 114 PD0, 115 PD1, 116 PD2, 117 PD3, 118 PD4, 119 PD5, 122 PD6, 123 PD7, 124 PG9, 125 PG10, 126 PG11, 127 PG12, 128 PG13, 129 PG14, 132 PG15, 133 PB3, 134 PB4, 135 PB5, 136 PB6, 137 PB7, 138 BOOT0, 139 PB8, 140 PB9, 141 PE0, 142 PE1
part B pins: 6 VBAT, 16 VSS, 17 VDD, 30 VDD, 31 VSSA, 32 Vref+, 33 VDDA, 38 VSS, 39 VDD, 51 VSS, 52 VDD, 61 VSS, 62 VDD, 71 Vcap_1, 72 VDD, 83 VSS, 84 VDD, 94 VSS, 95 VDD, 106 Vcap_2, 107 VSS, 108 VDD, 120 VSS, 121 VDD, 130 VSS, 131 VDD, 143 PDR_ON, 144 VDD

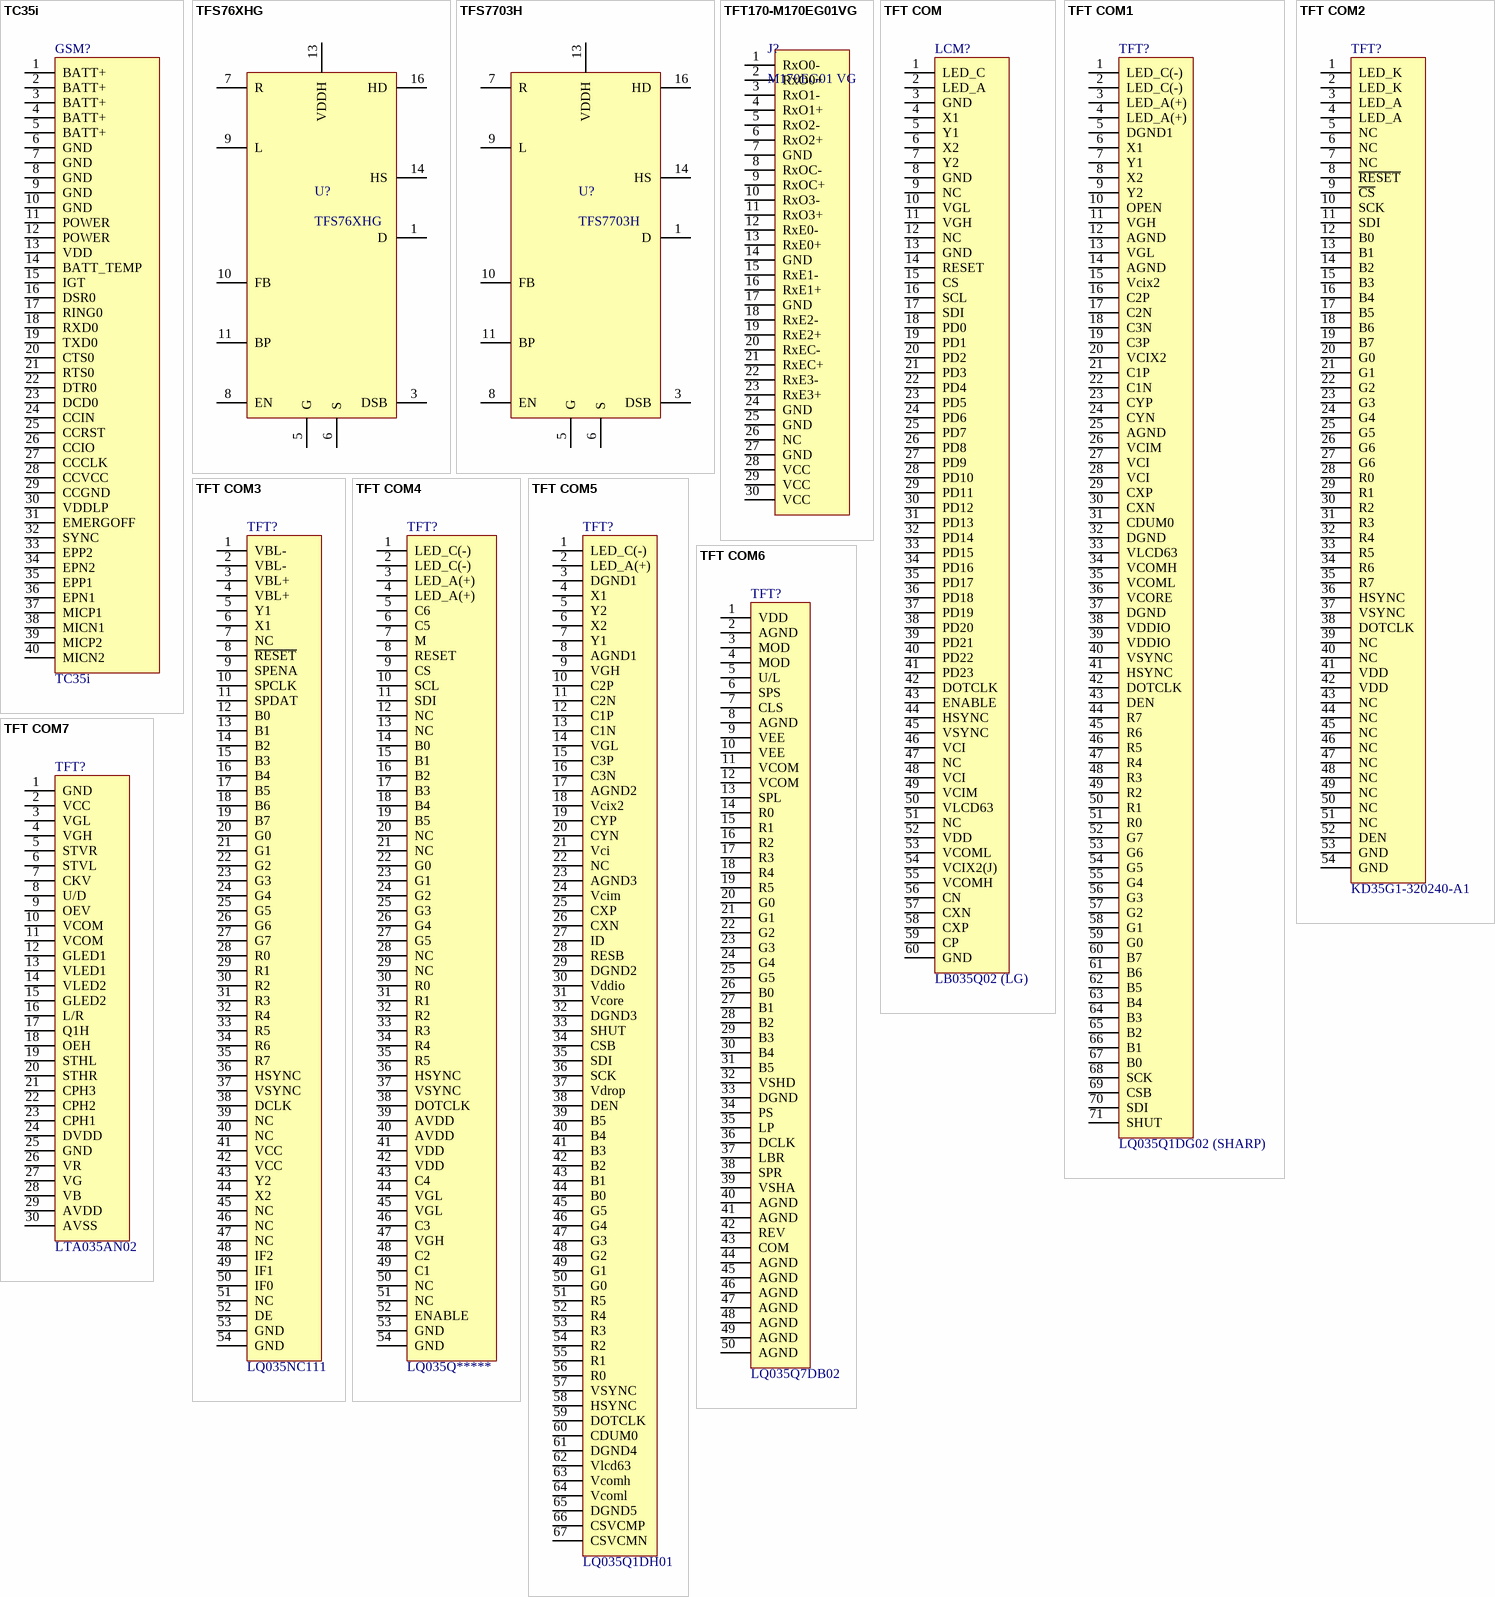
[diagram p34: symbols TC35i to TFT COM7]

## TC35i
designator GSM?
GSM MODEL
footprint FFC/SM0.5-2H40A (Connector; FH12 Series; 40 Position; 0.5mm Spaced Top Contact)
footprint FFC/SM0.5-2H40 (Connector; FH12 Series; 40 Position; 0.5mm Spaced Bottom Contact)
pins: 1 BATT+, 2 BATT+, 3 BATT+, 4 BATT+, 5 BATT+, 6 GND, 7 GND, 8 GND, 9 GND, 10 GND, 11 POWER, 12 POWER, 13 VDD, 14 BATT_TEMP, 15 IGT, 16 DSR0, 17 RING0, 18 RXD0, 19 TXD0, 20 CTS0, 21 RTS0, 22 DTR0, 23 DCD0, 24 CCIN, 25 CCRST, 26 CCIO, 27 CCCLK, 28 CCVCC, 29 CCGND, 30 VDDLP, 31 EMERGOFF, 32 SYNC, 33 EPP2, 34 EPN2, 35 EPP1, 36 EPN1, 37 MICP1, 38 MICN1, 39 MICP2, 40 MICN2

## TFS76XHG
designator U?
TFS系列开关电源IC
footprint eSIP-16B (Footprint not found)
pins: 1 D, 3 DSB, 5 G, 6 S, 7 R, 8 EN, 9 L, 10 FB, 11 BP, 13 VDDH, 14 HS, 16 HD

## TFS7703H
designator U?
TFS系列开关电源IC
footprint eSIP-16B (Footprint not found)
pins: 1 D, 3 DSB, 5 G, 6 S, 7 R, 8 EN, 9 L, 10 FB, 11 BP, 13 VDDH, 14 HS, 16 HD

## TFT170-M170EG01VG
designator J?, comment M170EG01 VG
footprint FI-XB30SSL-FH15 (LVDS接口座)
footprint FFC/SM1.0-2H30 (Connector; FH12 Series; 30 Position; 1.0mm Spaced Bottom Eccentric Contact)
pins: 1 RxO0-, 2 RxO0+, 3 RxO1-, 4 RxO1+, 5 RxO2-, 6 RxO2+, 7 GND, 8 RxOC-, 9 RxOC+, 10 RxO3-, 11 RxO3+, 12 RxE0-, 13 RxE0+, 14 GND, 15 RxE1-, 16 RxE1+, 17 GND, 18 RxE2-, 19 RxE2+, 20 RxEC-, 21 RxEC+, 22 RxE3-, 23 RxE3+, 24 GND, 25 GND, 26 NC, 27 GND, 28 VCC, 29 VCC, 30 VCC

## TFT COM
designator LCM?, comment LB035Q02 (LG)
LG 3.5" 带触摸液晶屏
pins: 1 LED_C, 2 LED_A, 3 GND, 4 X1, 5 Y1, 6 X2, 7 Y2, 8 GND, 9 NC, 10 VGL, 11 VGH "Gate High Voltage, Stabilization capicator", 12 NC "No Connect", 13 GND, 14 RESET, 15 CS, 16 SCL, 17 SDI, 18 PD0, 19 PD1, 20 PD2, 21 PD3, 22 PD4, 23 PD5, 24 PD6, 25 PD7, 26 PD8, 27 PD9, 28 PD10, 29 PD11, 30 PD12, 31 PD13, 32 PD14, 33 PD15, 34 PD16, 35 PD17, 36 PD18, 37 PD19, 38 PD20, 39 PD21, 40 PD22, 41 PD23, 42 DOTCLK, 43 ENABLE, 44 HSYNC, 45 VSYNC, 46 VCI, 47 NC, 48 VCI, 49 VCIM, 50 VLCD63, 51 NC, 52 VDD, 53 VCOML, 54 VCIX2(J), 55 VCOMH, 56 CN, 57 CXN, 58 CXP, 59 CP, 60 GND

## TFT COM1
designator TFT?, comment LQ035Q1DG02 (SHARP)
夏普3.5"TFT带触摸液晶屏
footprint FPC0.3-71 (0.3*71)
pins: 1 LED_C(-) "Power suplay for LED (low voltage)", 2 LED_C(-) "Power suplay for LED (low voltage)", 3 LED_A(+) "Power suplay for LED (high voltage)", 4 LED_A(+) "Power suplay for LED (high voltage)", 5 DGND1 "Digital Ground", 6 X1 "Touch panel right electrode", 7 Y1 "Touch panel bottom electrode", 8 X2 "Touch panel left electrode", 9 Y2 "Touch panel top electrode", 10 OPEN "Open", 11 VGH "Connet to a stabilizing capacitor", 12 AGND "Analog ground", 13 VGL "Connect to a stabilizing capactor", 14 AGND "Aanalog ground", 15 Vcix2 "Connect a stabilizing capactor to GND", 16 C2P "Connect a booster capactor to C2N", 17 C2N "Connect a booster capactor to C2P", 18 C3N "Connect a booster capactor to C3P", 19 C3P "Connect a booster capactor to C3N", 20 VCIX2 "Connect a stabilizing capactor to GND", 21 C1P "Connect a booster capactor to C1N", 22 C1N "Connect a booster capactor to C1P", 23 CYP "Connect a booster capactor to CYN", 24 CYN "Connect a booster capactor to CYP", 25 AGND "Analog Ground", 26 VCIM "Connect a stabilizing capactor to GND", 27 VCI "Booster input voltage pin", 28 VCI "Booster input voltage pin", 29 CXP "Connect a booster capactor to CXN", 30 CXN "Connect a booster capactor to CXP", 31 CDUM0 "Connect a stabilizing capactor to GND", 32 DGND "Digital Ground", 33 VLCD63 "Connect a stabilizing capactor to GND", 34 VCOMH "Connect a stabilizing capactor to GND", 35 VCOML "Connect a stabilizing capactor to GND", 36 VCORE "Connect a stabilizing capactor to GND", 37 DGND "Digital Ground", 38 VDDIO "Voltage input pin for logic I/O", 39 VDDIO "Voltage input pin for logic I/O", 40 VSYNC "Fram synchronization signal", 41 HSYNC "Line synchronization signal", 42 DOTCLK "Dot-Clock signal", 43 DEN "Display enable", 44 R7 "Red data signal (MSB)", 45 R6 "Red data signal", 46 R5 "Red data signal", 47 R4 "Red data signal", 48 R3 "Red data signal", 49 R2 "Red data signal", 50 R1 "Red data signal", 51 R0 "RED data signal (LSB)", 52 G7 "GREEN data signal (MSB)", 53 G6 "GREEN data signal", 54 G5 "GREEN data signal", 55 G4 "GREEN data signal", 56 G3 "GREEN data signal", 57 G2 "GREEN data signal", 58 G1 "GREEN data signal", 59 G0 "GREEN data signal (LSB)", 60 B7 "BLUE data signal (MSB)", 61 B6 "BLUE data signal", 62 B5 "BLUE data signal", 63 B4 "BLUE data signal", 64 B3 "BLUE data signal", 65 B2 "BLUE data signal", 66 B1 "BLUE data signal", 67 B0 "BLUE data signal (LSB)", 68 SCK "Clock input pin serial mode", 69 CSB "Chip select pin of serial interface", 70 SDI "Data input pin in serial mode", 71 SHUT "VCI startup"

## TFT COM2
designator TFT?, comment KD35G1-320240-A1
深圳国显科技有限公司
pins: 1 LED_K, 2 LED_K, 3 LED_A, 4 LED_A, 5 NC, 6 NC, 7 NC, 8 ~{RESET}, 9 ~{CS}, 10 SCK, 11 SDI, 12 B0, 13 B1, 14 B2, 15 B3, 16 B4, 17 B5, 18 B6, 19 B7, 20 G0, 21 G1, 22 G2, 23 G3, 24 G4, 25 G5, 26 G6, 27 G6, 28 R0, 29 R1, 30 R2, 31 R3, 32 R4, 33 R5, 34 R6, 35 R7, 36 HSYNC, 37 VSYNC, 38 DOTCLK, 39 NC, 40 NC, 41 VDD, 42 VDD, 43 NC, 44 NC, 45 NC, 46 NC, 47 NC, 48 NC, 49 NC, 50 NC, 51 NC, 52 DEN, 53 GND, 54 GND

## TFT COM3
designator TFT?, comment LQ035NC111
奇信3.5"带触摸液晶屏,LQ035NC111
footprint FFC/SM0.5-2H54A (Connector; FH12 Series; 50 Position; 0.5mm Spaced Top Contact)
pins: 1 VBL-, 2 VBL-, 3 VBL+, 4 VBL+, 5 Y1, 6 X1, 7 NC, 8 ~{RESET}, 9 SPENA, 10 SPCLK, 11 SPDAT, 12 B0, 13 B1, 14 B2, 15 B3, 16 B4, 17 B5, 18 B6, 19 B7, 20 G0, 21 G1, 22 G2, 23 G3, 24 G4, 25 G5, 26 G6, 27 G7, 28 R0, 29 R1, 30 R2, 31 R3, 32 R4, 33 R5, 34 R6, 35 R7, 36 HSYNC, 37 VSYNC, 38 DCLK, 39 NC, 40 NC, 41 VCC, 42 VCC, 43 Y2, 44 X2, 45 NC, 46 NC, 47 NC, 48 IF2, 49 IF1, 50 IF0, 51 NC, 52 DE, 53 GND, 54 GND

## TFT COM4
designator TFT?, comment LQ035Q*****
SHARP3.5"TFT LCM
pins: 1 LED_C(-), 2 LED_C(-), 3 LED_A(+), 4 LED_A(+), 5 C6, 6 C5, 7 M, 8 RESET, 9 CS, 10 SCL, 11 SDI, 12 NC, 13 NC, 14 B0, 15 B1, 16 B2, 17 B3, 18 B4, 19 B5, 20 NC, 21 NC, 22 G0, 23 G1, 24 G2, 25 G3, 26 G4, 27 G5, 28 NC, 29 NC, 30 R0, 31 R1, 32 R2, 33 R3, 34 R4, 35 R5, 36 HSYNC, 37 VSYNC, 38 DOTCLK, 39 AVDD, 40 AVDD, 41 VDD, 42 VDD, 43 C4, 44 VGL, 45 VGL, 46 C3, 47 VGH, 48 C2, 49 C1, 50 NC, 51 NC, 52 ENABLE, 53 GND, 54 GND

## TFT COM5
designator TFT?, comment LQ035Q1DH01
SHARP 3.5"带触摸液晶屏
pins: 1 LED_C(-), 2 LED_A(+), 3 DGND1, 4 X1, 5 Y2, 6 X2, 7 Y1, 8 AGND1, 9 VGH, 10 C2P, 11 C2N, 12 C1P, 13 C1N, 14 VGL, 15 C3P, 16 C3N, 17 AGND2, 18 Vcix2, 19 CYP, 20 CYN, 21 Vci, 22 NC, 23 AGND3, 24 Vcim, 25 CXP, 26 CXN, 27 ID, 28 RESB, 29 DGND2, 30 Vddio, 31 Vcore, 32 DGND3, 33 SHUT, 34 CSB, 35 SDI, 36 SCK, 37 Vdrop, 38 DEN, 39 B5, 40 B4, 41 B3, 42 B2, 43 B1, 44 B0, 45 G5, 46 G4, 47 G3, 48 G2, 49 G1, 50 G0, 51 R5, 52 R4, 53 R3, 54 R2, 55 R1, 56 R0, 57 VSYNC, 58 HSYNC, 59 DOTCLK, 60 CDUM0, 61 DGND4, 62 Vlcd63, 63 Vcomh, 64 Vcoml, 65 DGND5, 66 CSVCMP, 67 CSVCMN

## TFT COM6
designator TFT?, comment LQ035Q7DB02
SHARP 3.5" 液晶屏
pins: 1 VDD, 2 AGND, 3 MOD, 4 MOD, 5 U/L, 6 SPS, 7 CLS, 8 AGND, 9 VEE, 10 VEE, 11 VCOM, 12 VCOM, 13 SPL, 14 R0, 15 R1, 16 R2, 17 R3, 18 R4, 19 R5, 20 G0, 21 G1, 22 G2, 23 G3, 24 G4, 25 G5, 26 B0, 27 B1, 28 B2, 29 B3, 30 B4, 31 B5, 32 VSHD, 33 DGND, 34 PS, 35 LP, 36 DCLK, 37 LBR, 38 SPR, 39 VSHA, 40 AGND, 41 AGND, 42 REV, 43 COM, 44 AGND, 45 AGND, 46 AGND, 47 AGND, 48 AGND, 49 AGND, 50 AGND

## TFT COM7
designator TFT?, comment LTA035AN02
ELITE STAR 3.5" TFT
pins: 1 GND, 2 VCC, 3 VGL, 4 VGH, 5 STVR, 6 STVL, 7 CKV, 8 U/D, 9 OEV, 10 VCOM, 11 VCOM, 12 GLED1, 13 VLED1, 14 VLED2, 15 GLED2, 16 L/R, 17 Q1H, 18 OEH, 19 STHL, 20 STHR, 21 CPH3, 22 CPH2, 23 CPH1, 24 DVDD, 25 GND, 26 VR, 27 VG, 28 VB, 29 AVDD, 30 AVSS

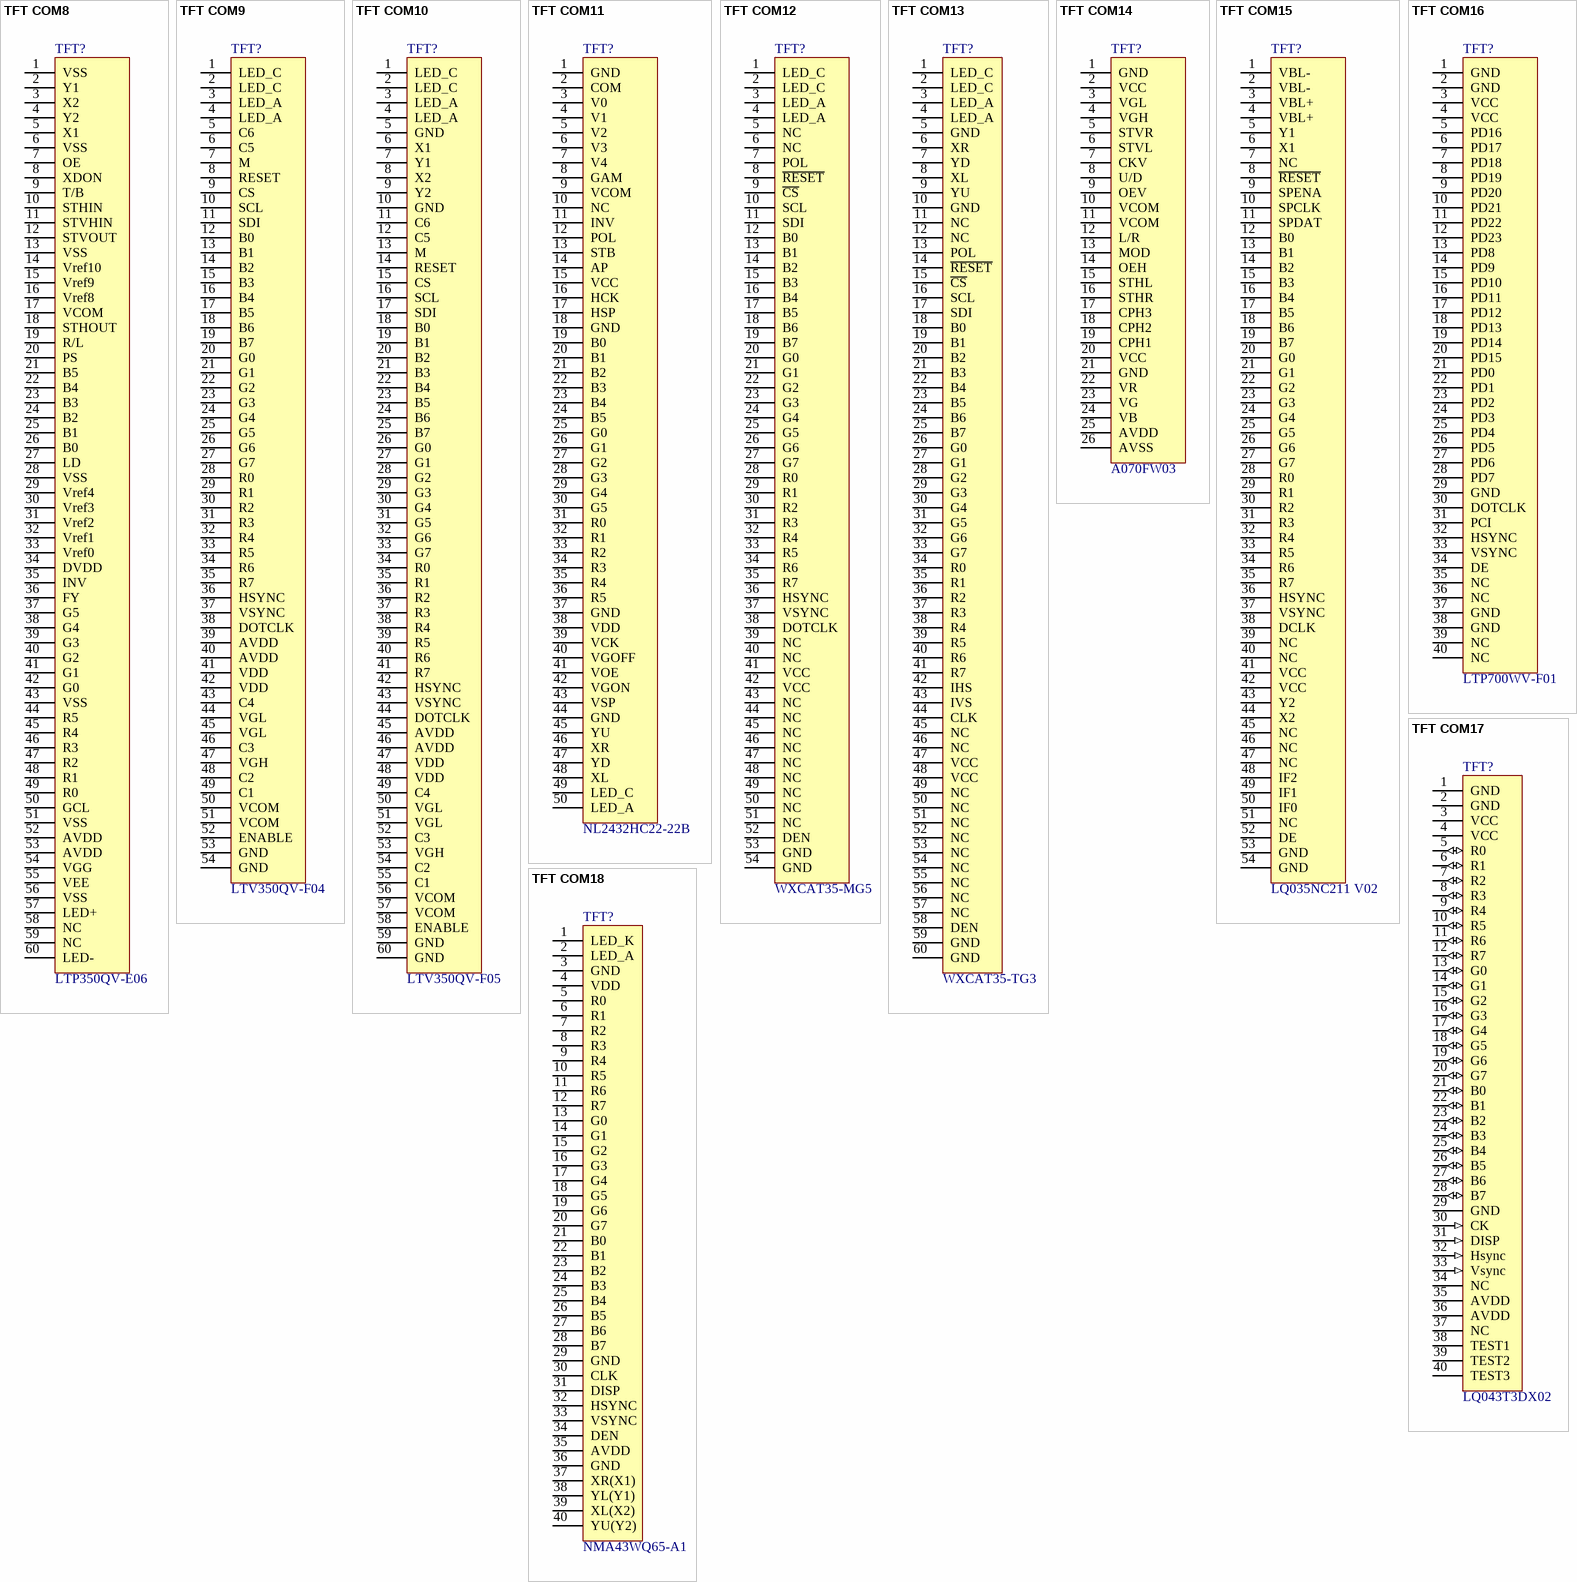
[diagram p35: symbols TFT COM8 to TFT COM18]

## TFT COM8
designator TFT?, comment LTP350QV-E06
SAMSUNG 3.5" 带触摸液晶屏
pins: 1 VSS, 2 Y1, 3 X2, 4 Y2, 5 X1, 6 VSS, 7 OE, 8 XDON, 9 T/B, 10 STHIN, 11 STVHIN, 12 STVOUT, 13 VSS, 14 Vref10, 15 Vref9, 16 Vref8, 17 VCOM, 18 STHOUT, 19 R/L, 20 PS, 21 B5, 22 B4, 23 B3, 24 B2, 25 B1, 26 B0, 27 LD, 28 VSS, 29 Vref4, 30 Vref3, 31 Vref2, 32 Vref1, 33 Vref0, 34 DVDD, 35 INV, 36 FY, 37 G5, 38 G4, 39 G3, 40 G2, 41 G1, 42 G0, 43 VSS, 44 R5, 45 R4, 46 R3, 47 R2, 48 R1, 49 R0, 50 GCL, 51 VSS, 52 AVDD, 53 AVDD, 54 VGG, 55 VEE, 56 VSS, 57 LED+, 58 NC, 59 NC, 60 LED-

## TFT COM9
designator TFT?, comment LTV350QV-F04
SAMSUNG 3.5" 液晶屏
pins: 1 LED_C, 2 LED_C, 3 LED_A, 4 LED_A, 5 C6, 6 C5, 7 M, 8 RESET, 9 CS, 10 SCL, 11 SDI, 12 B0, 13 B1, 14 B2, 15 B3, 16 B4, 17 B5, 18 B6, 19 B7, 20 G0, 21 G1, 22 G2, 23 G3, 24 G4, 25 G5, 26 G6, 27 G7, 28 R0, 29 R1, 30 R2, 31 R3, 32 R4, 33 R5, 34 R6, 35 R7, 36 HSYNC, 37 VSYNC, 38 DOTCLK, 39 AVDD, 40 AVDD, 41 VDD, 42 VDD, 43 C4, 44 VGL, 45 VGL, 46 C3, 47 VGH, 48 C2, 49 C1, 50 VCOM, 51 VCOM, 52 ENABLE, 53 GND, 54 GND

## TFT COM10
designator TFT?, comment LTV350QV-F05
SAMSUNG 3.5" 带触摸液晶屏
pins: 1 LED_C, 2 LED_C, 3 LED_A, 4 LED_A, 5 GND, 6 X1, 7 Y1, 8 X2, 9 Y2, 10 GND, 11 C6, 12 C5, 13 M, 14 RESET, 15 CS, 16 SCL, 17 SDI, 18 B0, 19 B1, 20 B2, 21 B3, 22 B4, 23 B5, 24 B6, 25 B7, 26 G0, 27 G1, 28 G2, 29 G3, 30 G4, 31 G5, 32 G6, 33 G7, 34 R0, 35 R1, 36 R2, 37 R3, 38 R4, 39 R5, 40 R6, 41 R7, 42 HSYNC, 43 VSYNC, 44 DOTCLK, 45 AVDD, 46 AVDD, 47 VDD, 48 VDD, 49 C4, 50 VGL, 51 VGL, 52 C3, 53 VGH, 54 C2, 55 C1, 56 VCOM, 57 VCOM, 58 ENABLE, 59 GND, 60 GND

## TFT COM11
designator TFT?, comment NL2432HC22-22B
NEC 3.5"带触摸液晶屏
pins: 1 GND, 2 COM, 3 V0, 4 V1, 5 V2, 6 V3, 7 V4, 8 GAM, 9 VCOM, 10 NC, 11 INV, 12 POL, 13 STB, 14 AP, 15 VCC, 16 HCK, 17 HSP, 18 GND, 19 B0, 20 B1, 21 B2, 22 B3, 23 B4, 24 B5, 25 G0, 26 G1, 27 G2, 28 G3, 29 G4, 30 G5, 31 R0, 32 R1, 33 R2, 34 R3, 35 R4, 36 R5, 37 GND, 38 VDD, 39 VCK, 40 VGOFF, 41 VOE, 42 VGON, 43 VSP, 44 GND, 45 YU, 46 XR, 47 YD, 48 XL, 49 LED_C, 50 LED_A

## TFT COM12
designator TFT?, comment WXCAT35-MG5
WANXIN 3.5"液晶屏
pins: 1 LED_C, 2 LED_C, 3 LED_A, 4 LED_A, 5 NC, 6 NC, 7 POL, 8 ~{RESET}, 9 ~{CS}, 10 SCL, 11 SDI, 12 B0, 13 B1, 14 B2, 15 B3, 16 B4, 17 B5, 18 B6, 19 B7, 20 G0, 21 G1, 22 G2, 23 G3, 24 G4, 25 G5, 26 G6, 27 G7, 28 R0, 29 R1, 30 R2, 31 R3, 32 R4, 33 R5, 34 R6, 35 R7, 36 HSYNC, 37 VSYNC, 38 DOTCLK, 39 NC, 40 NC, 41 VCC, 42 VCC, 43 NC, 44 NC, 45 NC, 46 NC, 47 NC, 48 NC, 49 NC, 50 NC, 51 NC, 52 DEN, 53 GND, 54 GND

## TFT COM13
designator TFT?, comment WXCAT35-TG3
WANXIN 3.5" 带触摸液晶屏
pins: 1 LED_C, 2 LED_C, 3 LED_A, 4 LED_A, 5 GND, 6 XR, 7 YD, 8 XL, 9 YU, 10 GND, 11 NC, 12 NC, 13 POL, 14 ~{RESET}, 15 ~{CS}, 16 SCL, 17 SDI, 18 B0, 19 B1, 20 B2, 21 B3, 22 B4, 23 B5, 24 B6, 25 B7, 26 G0, 27 G1, 28 G2, 29 G3, 30 G4, 31 G5, 32 G6, 33 G7, 34 R0, 35 R1, 36 R2, 37 R3, 38 R4, 39 R5, 40 R6, 41 R7, 42 IHS, 43 IVS, 44 CLK, 45 NC, 46 NC, 47 VCC, 48 VCC, 49 NC, 50 NC, 51 NC, 52 NC, 53 NC, 54 NC, 55 NC, 56 NC, 57 NC, 58 DEN, 59 GND, 60 GND

## TFT COM14
designator TFT?, comment A070FW03
AU 7" 液晶屏
pins: 1 GND, 2 VCC, 3 VGL, 4 VGH, 5 STVR, 6 STVL, 7 CKV, 8 U/D, 9 OEV, 10 VCOM, 11 VCOM, 12 L/R, 13 MOD, 14 OEH, 15 STHL, 16 STHR, 17 CPH3, 18 CPH2, 19 CPH1, 20 VCC, 21 GND, 22 VR, 23 VG, 24 VB, 25 AVDD, 26 AVSS